# Altium schematic symbol library MCU_Texas_MSP430.SchLib: 361 symbols (part 7 of 9)
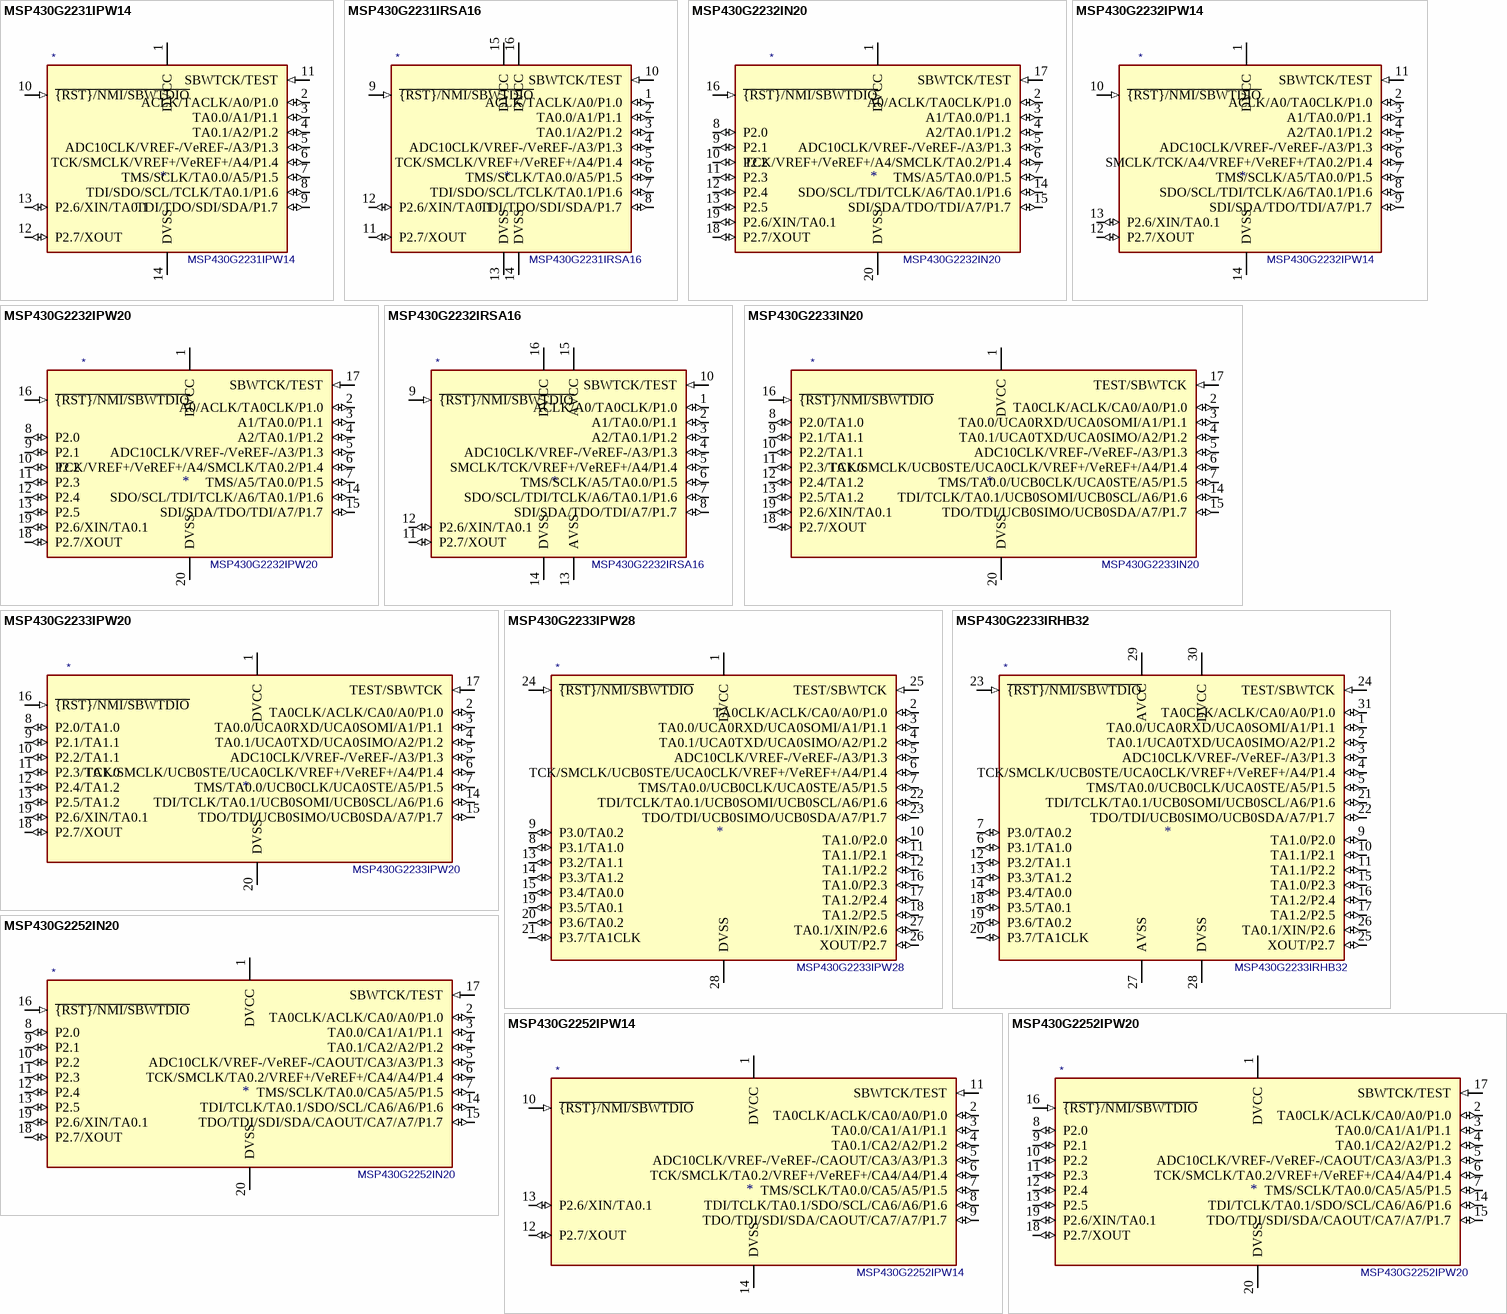
[diagram p40: symbols MSP430G2231IPW14 to MSP430G2252IPW20]

## MSP430G2231IPW14
designator *  value MSP430G2231IPW14
ki_keywords: TI MSP430 16-bit mixed signal microcontroller; ki_description: 2kB Flash, 128B RAM, TSSOP-14; ki_fp_filters: TSSOP*4.4x5mm*P0.65mm*; Footprint: Package_SO:TSSOP-14_4.4x5mm_P0.65mm; Supplier: http://www.ti.com/lit/ds/symlink/msp430g2231.pdf
footprint TSSOP-14_4.4x5mm_P0.65mm
pins: 1 DVCC (power), 2 ACLK/TACLK/A0/P1.0 (io), 3 TA0.0/A1/P1.1 (io), 4 TA0.1/A2/P1.2 (io), 5 ADC10CLK/VREF-/VeREF-/A3/P1.3 (io), 6 TCK/SMCLK/VREF+/VeREF+/A4/P1.4 (io), 7 TMS/SCLK/TA0.0/A5/P1.5 (io), 8 TDI/SDO/SCL/TCLK/TA0.1/P1.6 (io), 9 TDI/TDO/SDI/SDA/P1.7 (io), 10 ~{{RST}/NMI/SBWTDIO} (in), 11 SBWTCK/TEST (in), 12 P2.7/XOUT (io), 13 P2.6/XIN/TA0.1 (io), 14 DVSS (power)

## MSP430G2231IRSA16
designator *  value MSP430G2231IRSA16
ki_keywords: TI MSP430 16-bit mixed signal microcontroller; ki_description: 2kB Flash, 128B RAM, QFN-16; ki_fp_filters: Texas*S?PVQFN*; Footprint: Package_DFN_QFN:Texas_S-PVQFN-N16_EP2.7x2.7mm; Supplier: http://www.ti.com/lit/ds/symlink/msp430g2231.pdf
footprint Texas_S-PVQFN-N16_EP2.7x2.7mm
pins: 1 ACLK/TACLK/A0/P1.0 (io), 2 TA0.0/A1/P1.1 (io), 3 TA0.1/A2/P1.2 (io), 4 ADC10CLK/VREF-/VeREF-/A3/P1.3 (io), 5 TCK/SMCLK/VREF+/VeREF+/A4/P1.4 (io), 6 TMS/SCLK/TA0.0/A5/P1.5 (io), 7 TDI/SDO/SCL/TCLK/TA0.1/P1.6 (io), 8 TDI/TDO/SDI/SDA/P1.7 (io), 9 ~{{RST}/NMI/SBWTDIO} (in), 10 SBWTCK/TEST (in), 11 P2.7/XOUT (io), 12 P2.6/XIN/TA0.1 (io), 13 DVSS (power), 14 DVSS (power), 15 DVCC (power), 16 DVCC (power)

## MSP430G2232IN20
designator *  value MSP430G2232IN20
ki_keywords: TI MSP430 16-bit mixed signal microcontroller; ki_description: 2kB Flash, 256B RAM, DIP-20; ki_fp_filters: DIP*W7.62mm*; Footprint: Package_DIP:DIP-20_W7.62mm; Supplier: http://www.ti.com/lit/ds/symlink/msp430g2232.pdf
footprint DIP-20_W7.62mm
pins: 1 DVCC (power), 2 A0/ACLK/TA0CLK/P1.0 (io), 3 A1/TA0.0/P1.1 (io), 4 A2/TA0.1/P1.2 (io), 5 ADC10CLK/VREF-/VeREF-/A3/P1.3 (io), 6 TCK/VREF+/VeREF+/A4/SMCLK/TA0.2/P1.4 (io), 7 TMS/A5/TA0.0/P1.5 (io), 8 P2.0 (io), 9 P2.1 (io), 10 P2.2 (io), 11 P2.3 (io), 12 P2.4 (io), 13 P2.5 (io), 14 SDO/SCL/TDI/TCLK/A6/TA0.1/P1.6 (io), 15 SDI/SDA/TDO/TDI/A7/P1.7 (io), 16 ~{{RST}/NMI/SBWTDIO} (in), 17 SBWTCK/TEST (in), 18 P2.7/XOUT (io), 19 P2.6/XIN/TA0.1 (io), 20 DVSS (power)

## MSP430G2232IPW14
designator *  value MSP430G2232IPW14
ki_keywords: TI MSP430 16-bit mixed signal microcontroller; ki_description: 2kB Flash, 256B RAM, TSSOP-14; ki_fp_filters: TSSOP*4.4x5mm*P0.65mm*; Footprint: Package_SO:TSSOP-14_4.4x5mm_P0.65mm; Supplier: http://www.ti.com/lit/ds/symlink/msp430g2232.pdf
footprint TSSOP-14_4.4x5mm_P0.65mm
pins: 1 DVCC (power), 2 ACLK/A0/TA0CLK/P1.0 (io), 3 A1/TA0.0/P1.1 (io), 4 A2/TA0.1/P1.2 (io), 5 ADC10CLK/VREF-/VeREF-/A3/P1.3 (io), 6 SMCLK/TCK/A4/VREF+/VeREF+/TA0.2/P1.4 (io), 7 TMS/SCLK/A5/TA0.0/P1.5 (io), 8 SDO/SCL/TDI/TCLK/A6/TA0.1/P1.6 (io), 9 SDI/SDA/TDO/TDI/A7/P1.7 (io), 10 ~{{RST}/NMI/SBWTDIO} (in), 11 SBWTCK/TEST (in), 12 P2.7/XOUT (io), 13 P2.6/XIN/TA0.1 (io), 14 DVSS (power)

## MSP430G2232IPW20
designator *  value MSP430G2232IPW20
ki_keywords: TI MSP430 16-bit mixed signal microcontroller; ki_description: 2kB Flash, 256B RAM, TSSOP-20; ki_fp_filters: TSSOP*4.4x6.5mm*P0.65mm*; Footprint: Package_SO:TSSOP-20_4.4x6.5mm_P0.65mm; Supplier: http://www.ti.com/lit/ds/symlink/msp430g2232.pdf
footprint TSSOP-20_4.4x6.5mm_P0.65mm
pins: 1 DVCC (power), 2 A0/ACLK/TA0CLK/P1.0 (io), 3 A1/TA0.0/P1.1 (io), 4 A2/TA0.1/P1.2 (io), 5 ADC10CLK/VREF-/VeREF-/A3/P1.3 (io), 6 TCK/VREF+/VeREF+/A4/SMCLK/TA0.2/P1.4 (io), 7 TMS/A5/TA0.0/P1.5 (io), 8 P2.0 (io), 9 P2.1 (io), 10 P2.2 (io), 11 P2.3 (io), 12 P2.4 (io), 13 P2.5 (io), 14 SDO/SCL/TDI/TCLK/A6/TA0.1/P1.6 (io), 15 SDI/SDA/TDO/TDI/A7/P1.7 (io), 16 ~{{RST}/NMI/SBWTDIO} (in), 17 SBWTCK/TEST (in), 18 P2.7/XOUT (io), 19 P2.6/XIN/TA0.1 (io), 20 DVSS (power)

## MSP430G2232IRSA16
designator *  value MSP430G2232IRSA16
ki_keywords: TI MSP430 16-bit mixed signal microcontroller; ki_description: 2kB Flash, 256B RAM, QFN-16; ki_fp_filters: Texas*S?PVQFN*; Footprint: Package_DFN_QFN:Texas_S-PVQFN-N16_EP2.7x2.7mm; Supplier: http://www.ti.com/lit/ds/symlink/msp430g2232.pdf
footprint Texas_S-PVQFN-N16_EP2.7x2.7mm
pins: 1 ACLK/A0/TA0CLK/P1.0 (io), 2 A1/TA0.0/P1.1 (io), 3 A2/TA0.1/P1.2 (io), 4 ADC10CLK/VREF-/VeREF-/A3/P1.3 (io), 5 SMCLK/TCK/VREF+/VeREF+/A4/P1.4 (io), 6 TMS/SCLK/A5/TA0.0/P1.5 (io), 7 SDO/SCL/TDI/TCLK/A6/TA0.1/P1.6 (io), 8 SDI/SDA/TDO/TDI/A7/P1.7 (io), 9 ~{{RST}/NMI/SBWTDIO} (in), 10 SBWTCK/TEST (in), 11 P2.7/XOUT (io), 12 P2.6/XIN/TA0.1 (io), 13 AVSS (power), 14 DVSS (power), 15 AVCC (power), 16 DVCC (power)

## MSP430G2233IN20
designator *  value MSP430G2233IN20
ki_keywords: TI MSP430 16-bit mixed signal microcontroller; ki_description: 2kB Flash, 256B RAM, DIP-20; ki_fp_filters: DIP*W7.62mm*; Footprint: Package_DIP:DIP-20_W7.62mm; Supplier: http://www.ti.com/lit/ds/symlink/msp430g2233.pdf
footprint DIP-20_W7.62mm
pins: 1 DVCC (power), 2 TA0CLK/ACLK/CA0/A0/P1.0 (io), 3 TA0.0/UCA0RXD/UCA0SOMI/A1/P1.1 (io), 4 TA0.1/UCA0TXD/UCA0SIMO/A2/P1.2 (io), 5 ADC10CLK/VREF-/VeREF-/A3/P1.3 (io), 6 TCK/SMCLK/UCB0STE/UCA0CLK/VREF+/VeREF+/A4/P1.4 (io), 7 TMS/TA0.0/UCB0CLK/UCA0STE/A5/P1.5 (io), 8 P2.0/TA1.0 (io), 9 P2.1/TA1.1 (io), 10 P2.2/TA1.1 (io), 11 P2.3/TA1.0 (io), 12 P2.4/TA1.2 (io), 13 P2.5/TA1.2 (io), 14 TDI/TCLK/TA0.1/UCB0SOMI/UCB0SCL/A6/P1.6 (io), 15 TDO/TDI/UCB0SIMO/UCB0SDA/A7/P1.7 (io), 16 ~{{RST}/NMI/SBWTDIO} (in), 17 TEST/SBWTCK (in), 18 P2.7/XOUT (io), 19 P2.6/XIN/TA0.1 (io), 20 DVSS (power)

## MSP430G2233IPW20
designator *  value MSP430G2233IPW20
ki_keywords: TI MSP430 16-bit mixed signal microcontroller; ki_description: 2kB Flash, 256B RAM, TSSOP-20; ki_fp_filters: TSSOP*4.4x6.5mm*P0.65mm*; Footprint: Package_SO:TSSOP-20_4.4x6.5mm_P0.65mm; Supplier: http://www.ti.com/lit/ds/symlink/msp430g2233.pdf
footprint TSSOP-20_4.4x6.5mm_P0.65mm
pins: 1 DVCC (power), 2 TA0CLK/ACLK/CA0/A0/P1.0 (io), 3 TA0.0/UCA0RXD/UCA0SOMI/A1/P1.1 (io), 4 TA0.1/UCA0TXD/UCA0SIMO/A2/P1.2 (io), 5 ADC10CLK/VREF-/VeREF-/A3/P1.3 (io), 6 TCK/SMCLK/UCB0STE/UCA0CLK/VREF+/VeREF+/A4/P1.4 (io), 7 TMS/TA0.0/UCB0CLK/UCA0STE/A5/P1.5 (io), 8 P2.0/TA1.0 (io), 9 P2.1/TA1.1 (io), 10 P2.2/TA1.1 (io), 11 P2.3/TA1.0 (io), 12 P2.4/TA1.2 (io), 13 P2.5/TA1.2 (io), 14 TDI/TCLK/TA0.1/UCB0SOMI/UCB0SCL/A6/P1.6 (io), 15 TDO/TDI/UCB0SIMO/UCB0SDA/A7/P1.7 (io), 16 ~{{RST}/NMI/SBWTDIO} (in), 17 TEST/SBWTCK (in), 18 P2.7/XOUT (io), 19 P2.6/XIN/TA0.1 (io), 20 DVSS (power)

## MSP430G2233IPW28
designator *  value MSP430G2233IPW28
ki_keywords: TI MSP430 16-bit mixed signal microcontroller; ki_description: 2kB Flash, 256B RAM, TSSOP-28; ki_fp_filters: TSSOP*4.4x9.7mm*P0.65mm*; Footprint: Package_SO:TSSOP-28_4.4x9.7mm_P0.65mm; Supplier: http://www.ti.com/lit/ds/symlink/msp430g2233.pdf
footprint TSSOP-28_4.4x9.7mm_P0.65mm
pins: 1 DVCC (power), 2 TA0CLK/ACLK/CA0/A0/P1.0 (io), 3 TA0.0/UCA0RXD/UCA0SOMI/A1/P1.1 (io), 4 TA0.1/UCA0TXD/UCA0SIMO/A2/P1.2 (io), 5 ADC10CLK/VREF-/VeREF-/A3/P1.3 (io), 6 TCK/SMCLK/UCB0STE/UCA0CLK/VREF+/VeREF+/A4/P1.4 (io), 7 TMS/TA0.0/UCB0CLK/UCA0STE/A5/P1.5 (io), 8 P3.1/TA1.0 (io), 9 P3.0/TA0.2 (io), 10 TA1.0/P2.0 (io), 11 TA1.1/P2.1 (io), 12 TA1.1/P2.2 (io), 13 P3.2/TA1.1 (io), 14 P3.3/TA1.2 (io), 15 P3.4/TA0.0 (io), 16 TA1.0/P2.3 (io), 17 TA1.2/P2.4 (io), 18 TA1.2/P2.5 (io), 19 P3.5/TA0.1 (io), 20 P3.6/TA0.2 (io), 21 P3.7/TA1CLK (io), 22 TDI/TCLK/TA0.1/UCB0SOMI/UCB0SCL/A6/P1.6 (io), 23 TDO/TDI/UCB0SIMO/UCB0SDA/A7/P1.7 (io), 24 ~{{RST}/NMI/SBWTDIO} (in), 25 TEST/SBWTCK (in), 26 XOUT/P2.7 (io), 27 TA0.1/XIN/P2.6 (io), 28 DVSS (power)

## MSP430G2233IRHB32
designator *  value MSP430G2233IRHB32
ki_keywords: TI MSP430 16-bit mixed signal microcontroller; ki_description: 2kB Flash, 256B RAM, QFN-32; ki_fp_filters: Texas*S?PVQFN*; Footprint: Package_DFN_QFN:Texas_S-PVQFN-N32_EP3.45x3.45mm; Supplier: http://www.ti.com/lit/ds/symlink/msp430g2233.pdf
footprint Texas_S-PVQFN-N32_EP3.45x3.45mm
pins: 1 TA0.0/UCA0RXD/UCA0SOMI/A1/P1.1 (io), 2 TA0.1/UCA0TXD/UCA0SIMO/A2/P1.2 (io), 3 ADC10CLK/VREF-/VeREF-/A3/P1.3 (io), 4 TCK/SMCLK/UCB0STE/UCA0CLK/VREF+/VeREF+/A4/P1.4 (io), 5 TMS/TA0.0/UCB0CLK/UCA0STE/A5/P1.5 (io), 6 P3.1/TA1.0 (io), 7 P3.0/TA0.2 (io), 9 TA1.0/P2.0 (io), 10 TA1.1/P2.1 (io), 11 TA1.1/P2.2 (io), 12 P3.2/TA1.1 (io), 13 P3.3/TA1.2 (io), 14 P3.4/TA0.0 (io), 15 TA1.0/P2.3 (io), 16 TA1.2/P2.4 (io), 17 TA1.2/P2.5 (io), 18 P3.5/TA0.1 (io), 19 P3.6/TA0.2 (io), 20 P3.7/TA1CLK (io), 21 TDI/TCLK/TA0.1/UCB0SOMI/UCB0SCL/A6/P1.6 (io), 22 TDO/TDI/UCB0SIMO/UCB0SDA/A7/P1.7 (io), 23 ~{{RST}/NMI/SBWTDIO} (in), 24 TEST/SBWTCK (in), 25 XOUT/P2.7 (io), 26 TA0.1/XIN/P2.6 (io), 27 AVSS (power), 28 DVSS (power), 29 AVCC (power), 30 DVCC (power), 31 TA0CLK/ACLK/CA0/A0/P1.0 (io)

## MSP430G2252IN20
designator *  value MSP430G2252IN20
ki_keywords: TI MSP430 16-bit mixed signal microcontroller; ki_description: 2kB Flash, 256B RAM, DIP-20; ki_fp_filters: DIP*W7.62mm*; Footprint: Package_DIP:DIP-20_W7.62mm; Supplier: http://www.ti.com/lit/ds/symlink/msp430g2252.pdf
footprint DIP-20_W7.62mm
pins: 1 DVCC (power), 2 TA0CLK/ACLK/CA0/A0/P1.0 (io), 3 TA0.0/CA1/A1/P1.1 (io), 4 TA0.1/CA2/A2/P1.2 (io), 5 ADC10CLK/VREF-/VeREF-/CAOUT/CA3/A3/P1.3 (io), 6 TCK/SMCLK/TA0.2/VREF+/VeREF+/CA4/A4/P1.4 (io), 7 TMS/SCLK/TA0.0/CA5/A5/P1.5 (io), 8 P2.0 (io), 9 P2.1 (io), 10 P2.2 (io), 11 P2.3 (io), 12 P2.4 (io), 13 P2.5 (io), 14 TDI/TCLK/TA0.1/SDO/SCL/CA6/A6/P1.6 (io), 15 TDO/TDI/SDI/SDA/CAOUT/CA7/A7/P1.7 (io), 16 ~{{RST}/NMI/SBWTDIO} (in), 17 SBWTCK/TEST (in), 18 P2.7/XOUT (io), 19 P2.6/XIN/TA0.1 (io), 20 DVSS (power)

## MSP430G2252IPW14
designator *  value MSP430G2252IPW14
ki_keywords: TI MSP430 16-bit mixed signal microcontroller; ki_description: 2kB Flash, 256B RAM, TSSOP-14; ki_fp_filters: TSSOP*4.4x5mm*P0.65mm*; Footprint: Package_SO:TSSOP-14_4.4x5mm_P0.65mm; Supplier: http://www.ti.com/lit/ds/symlink/msp430g2252.pdf
footprint TSSOP-14_4.4x5mm_P0.65mm
pins: 1 DVCC (power), 2 TA0CLK/ACLK/CA0/A0/P1.0 (io), 3 TA0.0/CA1/A1/P1.1 (io), 4 TA0.1/CA2/A2/P1.2 (io), 5 ADC10CLK/VREF-/VeREF-/CAOUT/CA3/A3/P1.3 (io), 6 TCK/SMCLK/TA0.2/VREF+/VeREF+/CA4/A4/P1.4 (io), 7 TMS/SCLK/TA0.0/CA5/A5/P1.5 (io), 8 TDI/TCLK/TA0.1/SDO/SCL/CA6/A6/P1.6 (io), 9 TDO/TDI/SDI/SDA/CAOUT/CA7/A7/P1.7 (io), 10 ~{{RST}/NMI/SBWTDIO} (in), 11 SBWTCK/TEST (in), 12 P2.7/XOUT (io), 13 P2.6/XIN/TA0.1 (io), 14 DVSS (power)

## MSP430G2252IPW20
designator *  value MSP430G2252IPW20
ki_keywords: TI MSP430 16-bit mixed signal microcontroller; ki_description: 2kB Flash, 256B RAM, TSSOP-20; ki_fp_filters: TSSOP*4.4x6.5mm*P0.65mm*; Footprint: Package_SO:TSSOP-20_4.4x6.5mm_P0.65mm; Supplier: http://www.ti.com/lit/ds/symlink/msp430g2252.pdf
footprint TSSOP-20_4.4x6.5mm_P0.65mm
pins: 1 DVCC (power), 2 TA0CLK/ACLK/CA0/A0/P1.0 (io), 3 TA0.0/CA1/A1/P1.1 (io), 4 TA0.1/CA2/A2/P1.2 (io), 5 ADC10CLK/VREF-/VeREF-/CAOUT/CA3/A3/P1.3 (io), 6 TCK/SMCLK/TA0.2/VREF+/VeREF+/CA4/A4/P1.4 (io), 7 TMS/SCLK/TA0.0/CA5/A5/P1.5 (io), 8 P2.0 (io), 9 P2.1 (io), 10 P2.2 (io), 11 P2.3 (io), 12 P2.4 (io), 13 P2.5 (io), 14 TDI/TCLK/TA0.1/SDO/SCL/CA6/A6/P1.6 (io), 15 TDO/TDI/SDI/SDA/CAOUT/CA7/A7/P1.7 (io), 16 ~{{RST}/NMI/SBWTDIO} (in), 17 SBWTCK/TEST (in), 18 P2.7/XOUT (io), 19 P2.6/XIN/TA0.1 (io), 20 DVSS (power)

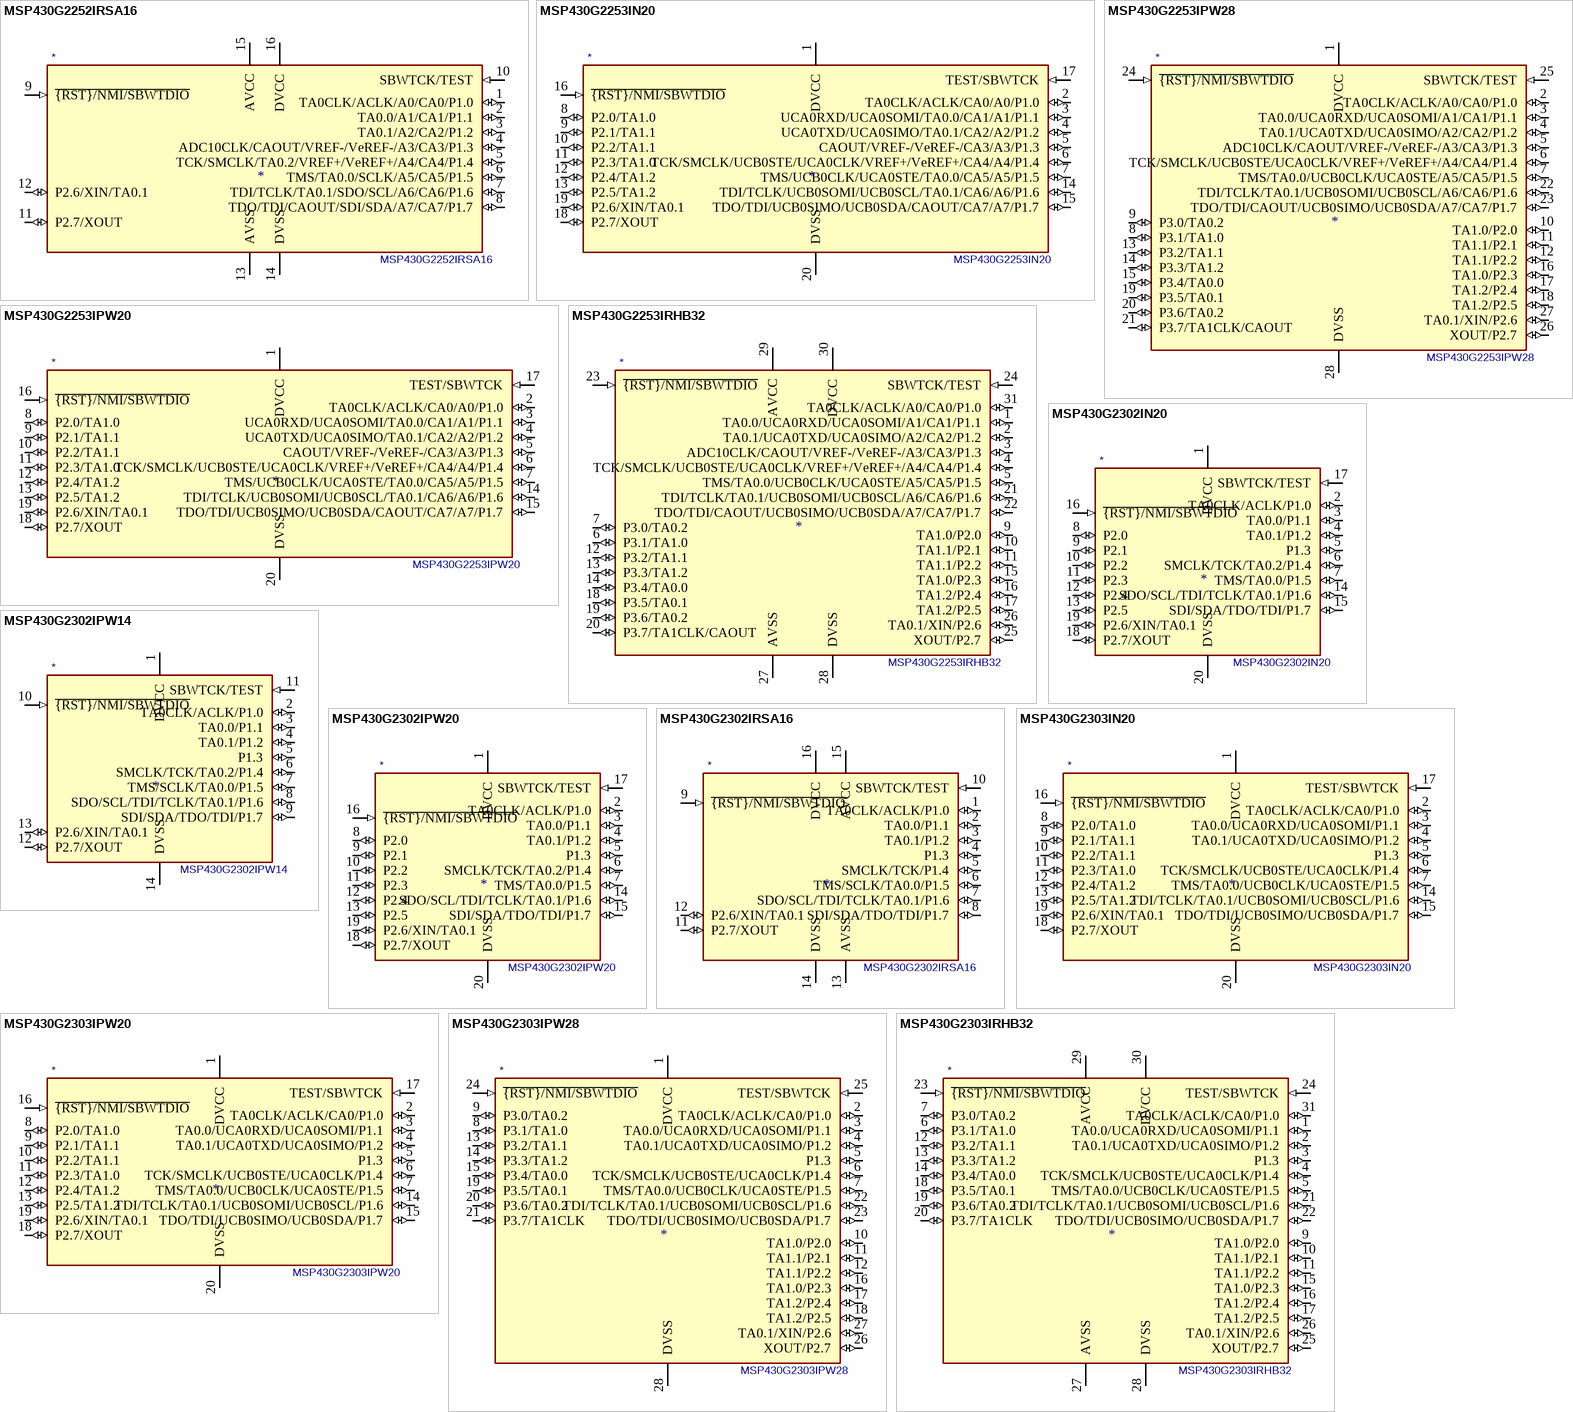
[diagram p26: symbols MSP430G2252IRSA16 to MSP430G2303IRHB32]

## MSP430G2252IRSA16
designator *  value MSP430G2252IRSA16
ki_keywords: TI MSP430 16-bit mixed signal microcontroller; ki_description: 2kB Flash, 256B RAM, QFN-16; ki_fp_filters: Texas*S?PVQFN*; Footprint: Package_DFN_QFN:Texas_S-PVQFN-N16_EP2.7x2.7mm; Supplier: http://www.ti.com/lit/ds/symlink/msp430g2252.pdf
footprint Texas_S-PVQFN-N16_EP2.7x2.7mm
pins: 1 TA0CLK/ACLK/A0/CA0/P1.0 (io), 2 TA0.0/A1/CA1/P1.1 (io), 3 TA0.1/A2/CA2/P1.2 (io), 4 ADC10CLK/CAOUT/VREF-/VeREF-/A3/CA3/P1.3 (io), 5 TCK/SMCLK/TA0.2/VREF+/VeREF+/A4/CA4/P1.4 (io), 6 TMS/TA0.0/SCLK/A5/CA5/P1.5 (io), 7 TDI/TCLK/TA0.1/SDO/SCL/A6/CA6/P1.6 (io), 8 TDO/TDI/CAOUT/SDI/SDA/A7/CA7/P1.7 (io), 9 ~{{RST}/NMI/SBWTDIO} (in), 10 SBWTCK/TEST (in), 11 P2.7/XOUT (io), 12 P2.6/XIN/TA0.1 (io), 13 AVSS (power), 14 DVSS (power), 15 AVCC (power), 16 DVCC (power)

## MSP430G2253IN20
designator *  value MSP430G2253IN20
ki_keywords: TI MSP430 16-bit mixed signal microcontroller; ki_description: 2kB Flash, 256B RAM, DIP-20; ki_fp_filters: DIP*W7.62mm*; Footprint: Package_DIP:DIP-20_W7.62mm; Supplier: http://www.ti.com/lit/ds/symlink/msp430g2253.pdf
footprint DIP-20_W7.62mm
pins: 1 DVCC (power), 2 TA0CLK/ACLK/CA0/A0/P1.0 (io), 3 UCA0RXD/UCA0SOMI/TA0.0/CA1/A1/P1.1 (io), 4 UCA0TXD/UCA0SIMO/TA0.1/CA2/A2/P1.2 (io), 5 CAOUT/VREF-/VeREF-/CA3/A3/P1.3 (io), 6 TCK/SMCLK/UCB0STE/UCA0CLK/VREF+/VeREF+/CA4/A4/P1.4 (io), 7 TMS/UCB0CLK/UCA0STE/TA0.0/CA5/A5/P1.5 (io), 8 P2.0/TA1.0 (io), 9 P2.1/TA1.1 (io), 10 P2.2/TA1.1 (io), 11 P2.3/TA1.0 (io), 12 P2.4/TA1.2 (io), 13 P2.5/TA1.2 (io), 14 TDI/TCLK/UCB0SOMI/UCB0SCL/TA0.1/CA6/A6/P1.6 (io), 15 TDO/TDI/UCB0SIMO/UCB0SDA/CAOUT/CA7/A7/P1.7 (io), 16 ~{{RST}/NMI/SBWTDIO} (in), 17 TEST/SBWTCK (in), 18 P2.7/XOUT (io), 19 P2.6/XIN/TA0.1 (io), 20 DVSS (power)

## MSP430G2253IPW20
designator *  value MSP430G2253IPW20
ki_keywords: TI MSP430 16-bit mixed signal microcontroller; ki_description: 2kB Flash, 256B RAM, TSSOP-20; ki_fp_filters: TSSOP*4.4x6.5mm*P0.65mm*; Footprint: Package_SO:TSSOP-20_4.4x6.5mm_P0.65mm; Supplier: http://www.ti.com/lit/ds/symlink/msp430g2253.pdf
footprint TSSOP-20_4.4x6.5mm_P0.65mm
pins: 1 DVCC (power), 2 TA0CLK/ACLK/CA0/A0/P1.0 (io), 3 UCA0RXD/UCA0SOMI/TA0.0/CA1/A1/P1.1 (io), 4 UCA0TXD/UCA0SIMO/TA0.1/CA2/A2/P1.2 (io), 5 CAOUT/VREF-/VeREF-/CA3/A3/P1.3 (io), 6 TCK/SMCLK/UCB0STE/UCA0CLK/VREF+/VeREF+/CA4/A4/P1.4 (io), 7 TMS/UCB0CLK/UCA0STE/TA0.0/CA5/A5/P1.5 (io), 8 P2.0/TA1.0 (io), 9 P2.1/TA1.1 (io), 10 P2.2/TA1.1 (io), 11 P2.3/TA1.0 (io), 12 P2.4/TA1.2 (io), 13 P2.5/TA1.2 (io), 14 TDI/TCLK/UCB0SOMI/UCB0SCL/TA0.1/CA6/A6/P1.6 (io), 15 TDO/TDI/UCB0SIMO/UCB0SDA/CAOUT/CA7/A7/P1.7 (io), 16 ~{{RST}/NMI/SBWTDIO} (in), 17 TEST/SBWTCK (in), 18 P2.7/XOUT (io), 19 P2.6/XIN/TA0.1 (io), 20 DVSS (power)

## MSP430G2253IPW28
designator *  value MSP430G2253IPW28
ki_keywords: TI MSP430 16-bit mixed signal microcontroller; ki_description: 2kB Flash, 256B RAM, TSSOP-28; ki_fp_filters: TSSOP*4.4x9.7mm*P0.65mm*; Footprint: Package_SO:TSSOP-28_4.4x9.7mm_P0.65mm; Supplier: http://www.ti.com/lit/ds/symlink/msp430g2253.pdf
footprint TSSOP-28_4.4x9.7mm_P0.65mm
pins: 1 DVCC (power), 2 TA0CLK/ACLK/A0/CA0/P1.0 (io), 3 TA0.0/UCA0RXD/UCA0SOMI/A1/CA1/P1.1 (io), 4 TA0.1/UCA0TXD/UCA0SIMO/A2/CA2/P1.2 (io), 5 ADC10CLK/CAOUT/VREF-/VeREF-/A3/CA3/P1.3 (io), 6 TCK/SMCLK/UCB0STE/UCA0CLK/VREF+/VeREF+/A4/CA4/P1.4 (io), 7 TMS/TA0.0/UCB0CLK/UCA0STE/A5/CA5/P1.5 (io), 8 P3.1/TA1.0 (io), 9 P3.0/TA0.2 (io), 10 TA1.0/P2.0 (io), 11 TA1.1/P2.1 (io), 12 TA1.1/P2.2 (io), 13 P3.2/TA1.1 (io), 14 P3.3/TA1.2 (io), 15 P3.4/TA0.0 (io), 16 TA1.0/P2.3 (io), 17 TA1.2/P2.4 (io), 18 TA1.2/P2.5 (io), 19 P3.5/TA0.1 (io), 20 P3.6/TA0.2 (io), 21 P3.7/TA1CLK/CAOUT (io), 22 TDI/TCLK/TA0.1/UCB0SOMI/UCB0SCL/A6/CA6/P1.6 (io), 23 TDO/TDI/CAOUT/UCB0SIMO/UCB0SDA/A7/CA7/P1.7 (io), 24 ~{{RST}/NMI/SBWTDIO} (in), 25 SBWTCK/TEST (in), 26 XOUT/P2.7 (io), 27 TA0.1/XIN/P2.6 (io), 28 DVSS (power)

## MSP430G2253IRHB32
designator *  value MSP430G2253IRHB32
ki_keywords: TI MSP430 16-bit mixed signal microcontroller; ki_description: 2kB Flash, 256B RAM, QFN-32; ki_fp_filters: Texas*S?PVQFN*; Footprint: Package_DFN_QFN:Texas_S-PVQFN-N32_EP3.45x3.45mm; Supplier: http://www.ti.com/lit/ds/symlink/msp430g2253.pdf
footprint Texas_S-PVQFN-N32_EP3.45x3.45mm
pins: 1 TA0.0/UCA0RXD/UCA0SOMI/A1/CA1/P1.1 (io), 2 TA0.1/UCA0TXD/UCA0SIMO/A2/CA2/P1.2 (io), 3 ADC10CLK/CAOUT/VREF-/VeREF-/A3/CA3/P1.3 (io), 4 TCK/SMCLK/UCB0STE/UCA0CLK/VREF+/VeREF+/A4/CA4/P1.4 (io), 5 TMS/TA0.0/UCB0CLK/UCA0STE/A5/CA5/P1.5 (io), 6 P3.1/TA1.0 (io), 7 P3.0/TA0.2 (io), 9 TA1.0/P2.0 (io), 10 TA1.1/P2.1 (io), 11 TA1.1/P2.2 (io), 12 P3.2/TA1.1 (io), 13 P3.3/TA1.2 (io), 14 P3.4/TA0.0 (io), 15 TA1.0/P2.3 (io), 16 TA1.2/P2.4 (io), 17 TA1.2/P2.5 (io), 18 P3.5/TA0.1 (io), 19 P3.6/TA0.2 (io), 20 P3.7/TA1CLK/CAOUT (io), 21 TDI/TCLK/TA0.1/UCB0SOMI/UCB0SCL/A6/CA6/P1.6 (io), 22 TDO/TDI/CAOUT/UCB0SIMO/UCB0SDA/A7/CA7/P1.7 (io), 23 ~{{RST}/NMI/SBWTDIO} (in), 24 SBWTCK/TEST (in), 25 XOUT/P2.7 (io), 26 TA0.1/XIN/P2.6 (io), 27 AVSS (power), 28 DVSS (power), 29 AVCC (power), 30 DVCC (power), 31 TA0CLK/ACLK/A0/CA0/P1.0 (io)

## MSP430G2302IN20
designator *  value MSP430G2302IN20
ki_keywords: TI MSP430 16-bit mixed signal microcontroller; ki_description: 4kB Flash, 256B RAM, DIP-20; ki_fp_filters: DIP*W7.62mm*; Footprint: Package_DIP:DIP-20_W7.62mm; Supplier: http://www.ti.com/lit/ds/symlink/msp430g2302.pdf
footprint DIP-20_W7.62mm
pins: 1 DVCC (power), 2 TA0CLK/ACLK/P1.0 (io), 3 TA0.0/P1.1 (io), 4 TA0.1/P1.2 (io), 5 P1.3 (io), 6 SMCLK/TCK/TA0.2/P1.4 (io), 7 TMS/TA0.0/P1.5 (io), 8 P2.0 (io), 9 P2.1 (io), 10 P2.2 (io), 11 P2.3 (io), 12 P2.4 (io), 13 P2.5 (io), 14 SDO/SCL/TDI/TCLK/TA0.1/P1.6 (io), 15 SDI/SDA/TDO/TDI/P1.7 (io), 16 ~{{RST}/NMI/SBWTDIO} (in), 17 SBWTCK/TEST (in), 18 P2.7/XOUT (io), 19 P2.6/XIN/TA0.1 (io), 20 DVSS (power)

## MSP430G2302IPW14
designator *  value MSP430G2302IPW14
ki_keywords: TI MSP430 16-bit mixed signal microcontroller; ki_description: 4kB Flash, 256B RAM, TSSOP-14; ki_fp_filters: TSSOP*4.4x5mm*P0.65mm*; Footprint: Package_SO:TSSOP-14_4.4x5mm_P0.65mm; Supplier: http://www.ti.com/lit/ds/symlink/msp430g2302.pdf
footprint TSSOP-14_4.4x5mm_P0.65mm
pins: 1 DVCC (power), 2 TA0CLK/ACLK/P1.0 (io), 3 TA0.0/P1.1 (io), 4 TA0.1/P1.2 (io), 5 P1.3 (io), 6 SMCLK/TCK/TA0.2/P1.4 (io), 7 TMS/SCLK/TA0.0/P1.5 (io), 8 SDO/SCL/TDI/TCLK/TA0.1/P1.6 (io), 9 SDI/SDA/TDO/TDI/P1.7 (io), 10 ~{{RST}/NMI/SBWTDIO} (in), 11 SBWTCK/TEST (in), 12 P2.7/XOUT (io), 13 P2.6/XIN/TA0.1 (io), 14 DVSS (power)

## MSP430G2302IPW20
designator *  value MSP430G2302IPW20
ki_keywords: TI MSP430 16-bit mixed signal microcontroller; ki_description: 4kB Flash, 256B RAM, TSSOP-20; ki_fp_filters: TSSOP*4.4x6.5mm*P0.65mm*; Footprint: Package_SO:TSSOP-20_4.4x6.5mm_P0.65mm; Supplier: http://www.ti.com/lit/ds/symlink/msp430g2302.pdf
footprint TSSOP-20_4.4x6.5mm_P0.65mm
pins: 1 DVCC (power), 2 TA0CLK/ACLK/P1.0 (io), 3 TA0.0/P1.1 (io), 4 TA0.1/P1.2 (io), 5 P1.3 (io), 6 SMCLK/TCK/TA0.2/P1.4 (io), 7 TMS/TA0.0/P1.5 (io), 8 P2.0 (io), 9 P2.1 (io), 10 P2.2 (io), 11 P2.3 (io), 12 P2.4 (io), 13 P2.5 (io), 14 SDO/SCL/TDI/TCLK/TA0.1/P1.6 (io), 15 SDI/SDA/TDO/TDI/P1.7 (io), 16 ~{{RST}/NMI/SBWTDIO} (in), 17 SBWTCK/TEST (in), 18 P2.7/XOUT (io), 19 P2.6/XIN/TA0.1 (io), 20 DVSS (power)

## MSP430G2302IRSA16
designator *  value MSP430G2302IRSA16
ki_keywords: TI MSP430 16-bit mixed signal microcontroller; ki_description: 4kB Flash, 256B RAM, QFN-16; ki_fp_filters: Texas*S?PVQFN*; Footprint: Package_DFN_QFN:Texas_S-PVQFN-N16_EP2.7x2.7mm; Supplier: http://www.ti.com/lit/ds/symlink/msp430g2302.pdf
footprint Texas_S-PVQFN-N16_EP2.7x2.7mm
pins: 1 TA0CLK/ACLK/P1.0 (io), 2 TA0.0/P1.1 (io), 3 TA0.1/P1.2 (io), 4 P1.3 (io), 5 SMCLK/TCK/P1.4 (io), 6 TMS/SCLK/TA0.0/P1.5 (io), 7 SDO/SCL/TDI/TCLK/TA0.1/P1.6 (io), 8 SDI/SDA/TDO/TDI/P1.7 (io), 9 ~{{RST}/NMI/SBWTDIO} (in), 10 SBWTCK/TEST (in), 11 P2.7/XOUT (io), 12 P2.6/XIN/TA0.1 (io), 13 AVSS (power), 14 DVSS (power), 15 AVCC (power), 16 DVCC (power)

## MSP430G2303IN20
designator *  value MSP430G2303IN20
ki_keywords: TI MSP430 16-bit mixed signal microcontroller; ki_description: 4kB Flash, 256B RAM, DIP-20; ki_fp_filters: DIP*W7.62mm*; Footprint: Package_DIP:DIP-20_W7.62mm; Supplier: http://www.ti.com/lit/ds/symlink/msp430g2303.pdf
footprint DIP-20_W7.62mm
pins: 1 DVCC (power), 2 TA0CLK/ACLK/CA0/P1.0 (io), 3 TA0.0/UCA0RXD/UCA0SOMI/P1.1 (io), 4 TA0.1/UCA0TXD/UCA0SIMO/P1.2 (io), 5 P1.3 (io), 6 TCK/SMCLK/UCB0STE/UCA0CLK/P1.4 (io), 7 TMS/TA0.0/UCB0CLK/UCA0STE/P1.5 (io), 8 P2.0/TA1.0 (io), 9 P2.1/TA1.1 (io), 10 P2.2/TA1.1 (io), 11 P2.3/TA1.0 (io), 12 P2.4/TA1.2 (io), 13 P2.5/TA1.2 (io), 14 TDI/TCLK/TA0.1/UCB0SOMI/UCB0SCL/P1.6 (io), 15 TDO/TDI/UCB0SIMO/UCB0SDA/P1.7 (io), 16 ~{{RST}/NMI/SBWTDIO} (in), 17 TEST/SBWTCK (in), 18 P2.7/XOUT (io), 19 P2.6/XIN/TA0.1 (io), 20 DVSS (power)

## MSP430G2303IPW20
designator *  value MSP430G2303IPW20
ki_keywords: TI MSP430 16-bit mixed signal microcontroller; ki_description: 4kB Flash, 256B RAM, TSSOP-20; ki_fp_filters: TSSOP*4.4x6.5mm*P0.65mm*; Footprint: Package_SO:TSSOP-20_4.4x6.5mm_P0.65mm; Supplier: http://www.ti.com/lit/ds/symlink/msp430g2303.pdf
footprint TSSOP-20_4.4x6.5mm_P0.65mm
pins: 1 DVCC (power), 2 TA0CLK/ACLK/CA0/P1.0 (io), 3 TA0.0/UCA0RXD/UCA0SOMI/P1.1 (io), 4 TA0.1/UCA0TXD/UCA0SIMO/P1.2 (io), 5 P1.3 (io), 6 TCK/SMCLK/UCB0STE/UCA0CLK/P1.4 (io), 7 TMS/TA0.0/UCB0CLK/UCA0STE/P1.5 (io), 8 P2.0/TA1.0 (io), 9 P2.1/TA1.1 (io), 10 P2.2/TA1.1 (io), 11 P2.3/TA1.0 (io), 12 P2.4/TA1.2 (io), 13 P2.5/TA1.2 (io), 14 TDI/TCLK/TA0.1/UCB0SOMI/UCB0SCL/P1.6 (io), 15 TDO/TDI/UCB0SIMO/UCB0SDA/P1.7 (io), 16 ~{{RST}/NMI/SBWTDIO} (in), 17 TEST/SBWTCK (in), 18 P2.7/XOUT (io), 19 P2.6/XIN/TA0.1 (io), 20 DVSS (power)

## MSP430G2303IPW28
designator *  value MSP430G2303IPW28
ki_keywords: TI MSP430 16-bit mixed signal microcontroller; ki_description: 4kB Flash, 256B RAM, TSSOP-28; ki_fp_filters: TSSOP*4.4x9.7mm*P0.65mm*; Footprint: Package_SO:TSSOP-28_4.4x9.7mm_P0.65mm; Supplier: http://www.ti.com/lit/ds/symlink/msp430g2303.pdf
footprint TSSOP-28_4.4x9.7mm_P0.65mm
pins: 1 DVCC (power), 2 TA0CLK/ACLK/CA0/P1.0 (io), 3 TA0.0/UCA0RXD/UCA0SOMI/P1.1 (io), 4 TA0.1/UCA0TXD/UCA0SIMO/P1.2 (io), 5 P1.3 (io), 6 TCK/SMCLK/UCB0STE/UCA0CLK/P1.4 (io), 7 TMS/TA0.0/UCB0CLK/UCA0STE/P1.5 (io), 8 P3.1/TA1.0 (io), 9 P3.0/TA0.2 (io), 10 TA1.0/P2.0 (io), 11 TA1.1/P2.1 (io), 12 TA1.1/P2.2 (io), 13 P3.2/TA1.1 (io), 14 P3.3/TA1.2 (io), 15 P3.4/TA0.0 (io), 16 TA1.0/P2.3 (io), 17 TA1.2/P2.4 (io), 18 TA1.2/P2.5 (io), 19 P3.5/TA0.1 (io), 20 P3.6/TA0.2 (io), 21 P3.7/TA1CLK (io), 22 TDI/TCLK/TA0.1/UCB0SOMI/UCB0SCL/P1.6 (io), 23 TDO/TDI/UCB0SIMO/UCB0SDA/P1.7 (io), 24 ~{{RST}/NMI/SBWTDIO} (in), 25 TEST/SBWTCK (in), 26 XOUT/P2.7 (io), 27 TA0.1/XIN/P2.6 (io), 28 DVSS (power)

## MSP430G2303IRHB32
designator *  value MSP430G2303IRHB32
ki_keywords: TI MSP430 16-bit mixed signal microcontroller; ki_description: 4kB Flash, 256B RAM, QFN-32; ki_fp_filters: Texas*S?PVQFN*; Footprint: Package_DFN_QFN:Texas_S-PVQFN-N32_EP3.45x3.45mm; Supplier: http://www.ti.com/lit/ds/symlink/msp430g2303.pdf
footprint Texas_S-PVQFN-N32_EP3.45x3.45mm
pins: 1 TA0.0/UCA0RXD/UCA0SOMI/P1.1 (io), 2 TA0.1/UCA0TXD/UCA0SIMO/P1.2 (io), 3 P1.3 (io), 4 TCK/SMCLK/UCB0STE/UCA0CLK/P1.4 (io), 5 TMS/TA0.0/UCB0CLK/UCA0STE/P1.5 (io), 6 P3.1/TA1.0 (io), 7 P3.0/TA0.2 (io), 9 TA1.0/P2.0 (io), 10 TA1.1/P2.1 (io), 11 TA1.1/P2.2 (io), 12 P3.2/TA1.1 (io), 13 P3.3/TA1.2 (io), 14 P3.4/TA0.0 (io), 15 TA1.0/P2.3 (io), 16 TA1.2/P2.4 (io), 17 TA1.2/P2.5 (io), 18 P3.5/TA0.1 (io), 19 P3.6/TA0.2 (io), 20 P3.7/TA1CLK (io), 21 TDI/TCLK/TA0.1/UCB0SOMI/UCB0SCL/P1.6 (io), 22 TDO/TDI/UCB0SIMO/UCB0SDA/P1.7 (io), 23 ~{{RST}/NMI/SBWTDIO} (in), 24 TEST/SBWTCK (in), 25 XOUT/P2.7 (io), 26 TA0.1/XIN/P2.6 (io), 27 AVSS (power), 28 DVSS (power), 29 AVCC (power), 30 DVCC (power), 31 TA0CLK/ACLK/CA0/P1.0 (io)

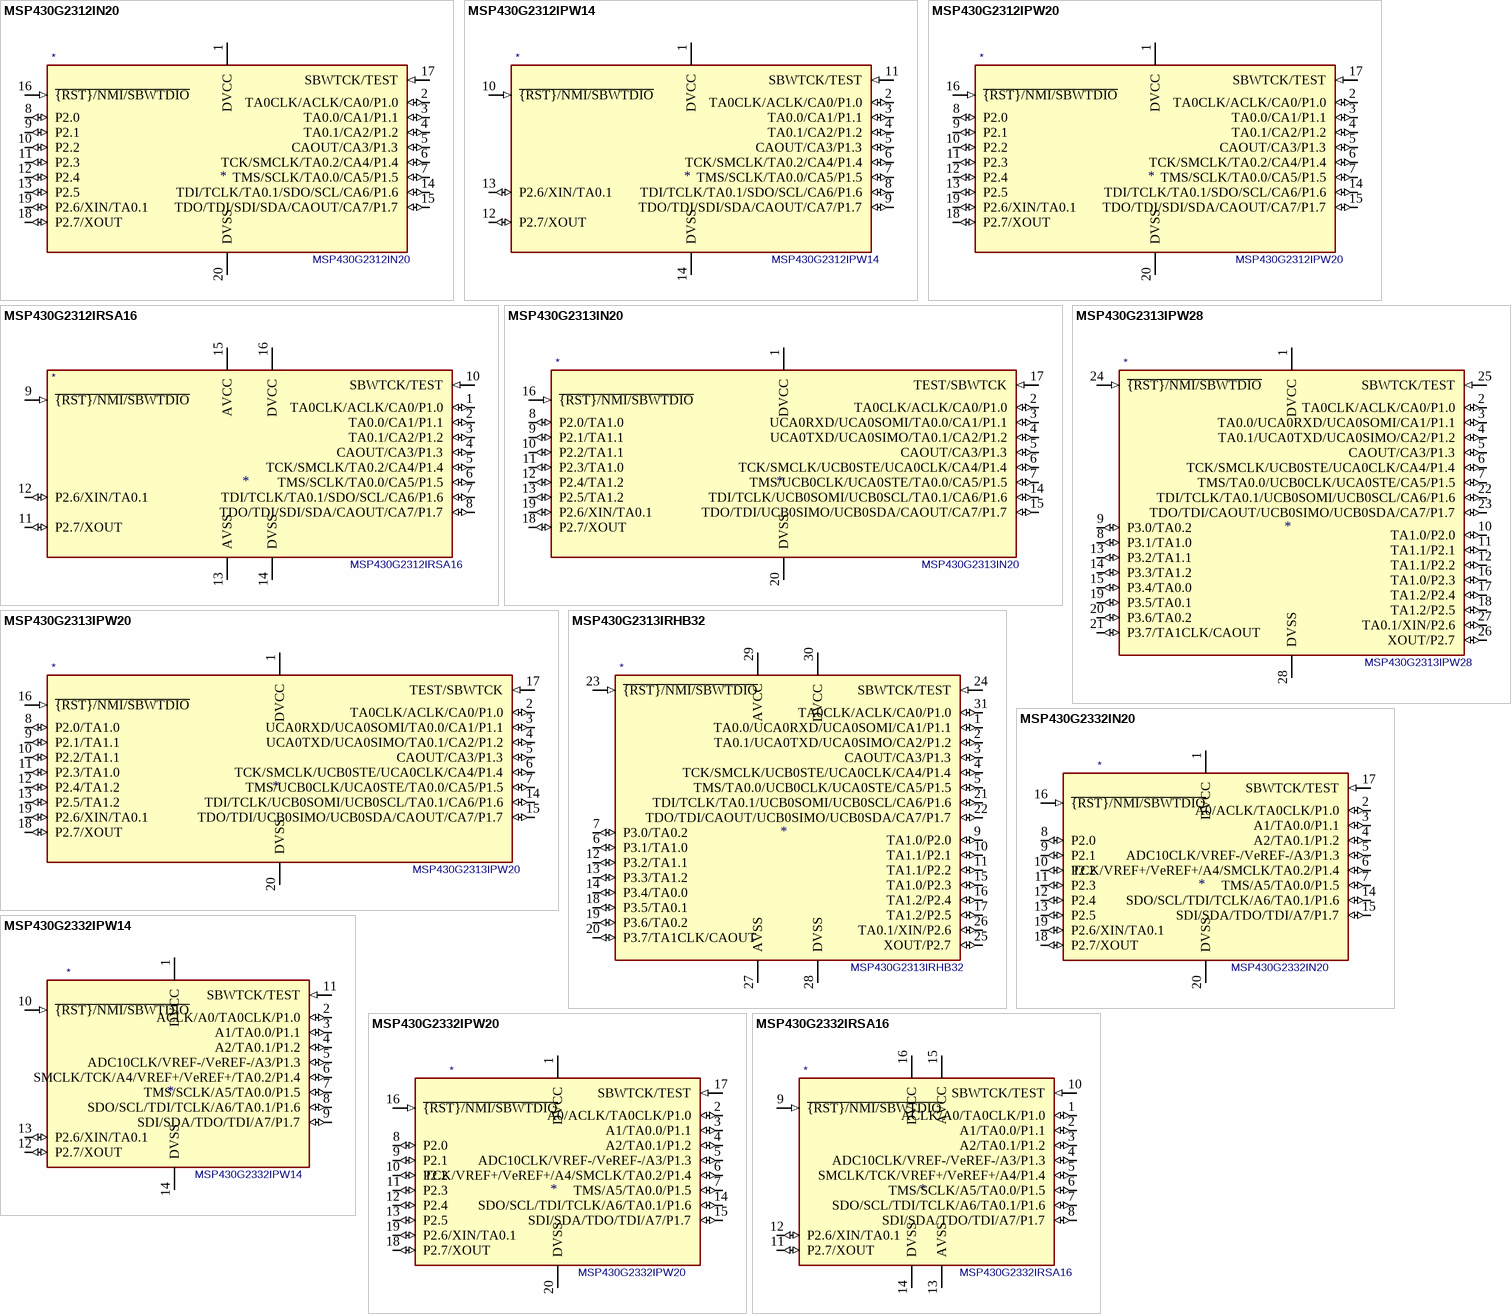
[diagram p27: symbols MSP430G2312IN20 to MSP430G2332IRSA16]

## MSP430G2312IN20
designator *  value MSP430G2312IN20
ki_keywords: TI MSP430 16-bit mixed signal microcontroller; ki_description: 4kB Flash, 256B RAM, DIP-20; ki_fp_filters: DIP*W7.62mm*; Footprint: Package_DIP:DIP-20_W7.62mm; Supplier: http://www.ti.com/lit/ds/symlink/msp430g2312.pdf
footprint DIP-20_W7.62mm
pins: 1 DVCC (power), 2 TA0CLK/ACLK/CA0/P1.0 (io), 3 TA0.0/CA1/P1.1 (io), 4 TA0.1/CA2/P1.2 (io), 5 CAOUT/CA3/P1.3 (io), 6 TCK/SMCLK/TA0.2/CA4/P1.4 (io), 7 TMS/SCLK/TA0.0/CA5/P1.5 (io), 8 P2.0 (io), 9 P2.1 (io), 10 P2.2 (io), 11 P2.3 (io), 12 P2.4 (io), 13 P2.5 (io), 14 TDI/TCLK/TA0.1/SDO/SCL/CA6/P1.6 (io), 15 TDO/TDI/SDI/SDA/CAOUT/CA7/P1.7 (io), 16 ~{{RST}/NMI/SBWTDIO} (in), 17 SBWTCK/TEST (in), 18 P2.7/XOUT (io), 19 P2.6/XIN/TA0.1 (io), 20 DVSS (power)

## MSP430G2312IPW14
designator *  value MSP430G2312IPW14
ki_keywords: TI MSP430 16-bit mixed signal microcontroller; ki_description: 4kB Flash, 256B RAM, TSSOP-14; ki_fp_filters: TSSOP*4.4x5mm*P0.65mm*; Footprint: Package_SO:TSSOP-14_4.4x5mm_P0.65mm; Supplier: http://www.ti.com/lit/ds/symlink/msp430g2312.pdf
footprint TSSOP-14_4.4x5mm_P0.65mm
pins: 1 DVCC (power), 2 TA0CLK/ACLK/CA0/P1.0 (io), 3 TA0.0/CA1/P1.1 (io), 4 TA0.1/CA2/P1.2 (io), 5 CAOUT/CA3/P1.3 (io), 6 TCK/SMCLK/TA0.2/CA4/P1.4 (io), 7 TMS/SCLK/TA0.0/CA5/P1.5 (io), 8 TDI/TCLK/TA0.1/SDO/SCL/CA6/P1.6 (io), 9 TDO/TDI/SDI/SDA/CAOUT/CA7/P1.7 (io), 10 ~{{RST}/NMI/SBWTDIO} (in), 11 SBWTCK/TEST (in), 12 P2.7/XOUT (io), 13 P2.6/XIN/TA0.1 (io), 14 DVSS (power)

## MSP430G2312IPW20
designator *  value MSP430G2312IPW20
ki_keywords: TI MSP430 16-bit mixed signal microcontroller; ki_description: 4kB Flash, 256B RAM, TSSOP-20; ki_fp_filters: TSSOP*4.4x6.5mm*P0.65mm*; Footprint: Package_SO:TSSOP-20_4.4x6.5mm_P0.65mm; Supplier: http://www.ti.com/lit/ds/symlink/msp430g2312.pdf
footprint TSSOP-20_4.4x6.5mm_P0.65mm
pins: 1 DVCC (power), 2 TA0CLK/ACLK/CA0/P1.0 (io), 3 TA0.0/CA1/P1.1 (io), 4 TA0.1/CA2/P1.2 (io), 5 CAOUT/CA3/P1.3 (io), 6 TCK/SMCLK/TA0.2/CA4/P1.4 (io), 7 TMS/SCLK/TA0.0/CA5/P1.5 (io), 8 P2.0 (io), 9 P2.1 (io), 10 P2.2 (io), 11 P2.3 (io), 12 P2.4 (io), 13 P2.5 (io), 14 TDI/TCLK/TA0.1/SDO/SCL/CA6/P1.6 (io), 15 TDO/TDI/SDI/SDA/CAOUT/CA7/P1.7 (io), 16 ~{{RST}/NMI/SBWTDIO} (in), 17 SBWTCK/TEST (in), 18 P2.7/XOUT (io), 19 P2.6/XIN/TA0.1 (io), 20 DVSS (power)

## MSP430G2312IRSA16
designator *  value MSP430G2312IRSA16
ki_keywords: TI MSP430 16-bit mixed signal microcontroller; ki_description: 4kB Flash, 256B RAM, QFN-16; ki_fp_filters: Texas*S?PVQFN*; Footprint: Package_DFN_QFN:Texas_S-PVQFN-N16_EP2.7x2.7mm; Supplier: http://www.ti.com/lit/ds/symlink/msp430g2312.pdf
footprint Texas_S-PVQFN-N16_EP2.7x2.7mm
pins: 1 TA0CLK/ACLK/CA0/P1.0 (io), 2 TA0.0/CA1/P1.1 (io), 3 TA0.1/CA2/P1.2 (io), 4 CAOUT/CA3/P1.3 (io), 5 TCK/SMCLK/TA0.2/CA4/P1.4 (io), 6 TMS/SCLK/TA0.0/CA5/P1.5 (io), 7 TDI/TCLK/TA0.1/SDO/SCL/CA6/P1.6 (io), 8 TDO/TDI/SDI/SDA/CAOUT/CA7/P1.7 (io), 9 ~{{RST}/NMI/SBWTDIO} (in), 10 SBWTCK/TEST (in), 11 P2.7/XOUT (io), 12 P2.6/XIN/TA0.1 (io), 13 AVSS (power), 14 DVSS (power), 15 AVCC (power), 16 DVCC (power)

## MSP430G2313IN20
designator *  value MSP430G2313IN20
ki_keywords: TI MSP430 16-bit mixed signal microcontroller; ki_description: 4kB Flash, 256B RAM, DIP-20; ki_fp_filters: DIP*W7.62mm*; Footprint: Package_DIP:DIP-20_W7.62mm; Supplier: http://www.ti.com/lit/ds/symlink/msp430g2313.pdf
footprint DIP-20_W7.62mm
pins: 1 DVCC (power), 2 TA0CLK/ACLK/CA0/P1.0 (io), 3 UCA0RXD/UCA0SOMI/TA0.0/CA1/P1.1 (io), 4 UCA0TXD/UCA0SIMO/TA0.1/CA2/P1.2 (io), 5 CAOUT/CA3/P1.3 (io), 6 TCK/SMCLK/UCB0STE/UCA0CLK/CA4/P1.4 (io), 7 TMS/UCB0CLK/UCA0STE/TA0.0/CA5/P1.5 (io), 8 P2.0/TA1.0 (io), 9 P2.1/TA1.1 (io), 10 P2.2/TA1.1 (io), 11 P2.3/TA1.0 (io), 12 P2.4/TA1.2 (io), 13 P2.5/TA1.2 (io), 14 TDI/TCLK/UCB0SOMI/UCB0SCL/TA0.1/CA6/P1.6 (io), 15 TDO/TDI/UCB0SIMO/UCB0SDA/CAOUT/CA7/P1.7 (io), 16 ~{{RST}/NMI/SBWTDIO} (in), 17 TEST/SBWTCK (in), 18 P2.7/XOUT (io), 19 P2.6/XIN/TA0.1 (io), 20 DVSS (power)

## MSP430G2313IPW20
designator *  value MSP430G2313IPW20
ki_keywords: TI MSP430 16-bit mixed signal microcontroller; ki_description: 4kB Flash, 256B RAM, TSSOP-20; ki_fp_filters: TSSOP*4.4x6.5mm*P0.65mm*; Footprint: Package_SO:TSSOP-20_4.4x6.5mm_P0.65mm; Supplier: http://www.ti.com/lit/ds/symlink/msp430g2313.pdf
footprint TSSOP-20_4.4x6.5mm_P0.65mm
pins: 1 DVCC (power), 2 TA0CLK/ACLK/CA0/P1.0 (io), 3 UCA0RXD/UCA0SOMI/TA0.0/CA1/P1.1 (io), 4 UCA0TXD/UCA0SIMO/TA0.1/CA2/P1.2 (io), 5 CAOUT/CA3/P1.3 (io), 6 TCK/SMCLK/UCB0STE/UCA0CLK/CA4/P1.4 (io), 7 TMS/UCB0CLK/UCA0STE/TA0.0/CA5/P1.5 (io), 8 P2.0/TA1.0 (io), 9 P2.1/TA1.1 (io), 10 P2.2/TA1.1 (io), 11 P2.3/TA1.0 (io), 12 P2.4/TA1.2 (io), 13 P2.5/TA1.2 (io), 14 TDI/TCLK/UCB0SOMI/UCB0SCL/TA0.1/CA6/P1.6 (io), 15 TDO/TDI/UCB0SIMO/UCB0SDA/CAOUT/CA7/P1.7 (io), 16 ~{{RST}/NMI/SBWTDIO} (in), 17 TEST/SBWTCK (in), 18 P2.7/XOUT (io), 19 P2.6/XIN/TA0.1 (io), 20 DVSS (power)

## MSP430G2313IPW28
designator *  value MSP430G2313IPW28
ki_keywords: TI MSP430 16-bit mixed signal microcontroller; ki_description: 4kB Flash, 256B RAM, TSSOP-28; ki_fp_filters: TSSOP*4.4x9.7mm*P0.65mm*; Footprint: Package_SO:TSSOP-28_4.4x9.7mm_P0.65mm; Supplier: http://www.ti.com/lit/ds/symlink/msp430g2313.pdf
footprint TSSOP-28_4.4x9.7mm_P0.65mm
pins: 1 DVCC (power), 2 TA0CLK/ACLK/CA0/P1.0 (io), 3 TA0.0/UCA0RXD/UCA0SOMI/CA1/P1.1 (io), 4 TA0.1/UCA0TXD/UCA0SIMO/CA2/P1.2 (io), 5 CAOUT/CA3/P1.3 (io), 6 TCK/SMCLK/UCB0STE/UCA0CLK/CA4/P1.4 (io), 7 TMS/TA0.0/UCB0CLK/UCA0STE/CA5/P1.5 (io), 8 P3.1/TA1.0 (io), 9 P3.0/TA0.2 (io), 10 TA1.0/P2.0 (io), 11 TA1.1/P2.1 (io), 12 TA1.1/P2.2 (io), 13 P3.2/TA1.1 (io), 14 P3.3/TA1.2 (io), 15 P3.4/TA0.0 (io), 16 TA1.0/P2.3 (io), 17 TA1.2/P2.4 (io), 18 TA1.2/P2.5 (io), 19 P3.5/TA0.1 (io), 20 P3.6/TA0.2 (io), 21 P3.7/TA1CLK/CAOUT (io), 22 TDI/TCLK/TA0.1/UCB0SOMI/UCB0SCL/CA6/P1.6 (io), 23 TDO/TDI/CAOUT/UCB0SIMO/UCB0SDA/CA7/P1.7 (io), 24 ~{{RST}/NMI/SBWTDIO} (in), 25 SBWTCK/TEST (in), 26 XOUT/P2.7 (io), 27 TA0.1/XIN/P2.6 (io), 28 DVSS (power)

## MSP430G2313IRHB32
designator *  value MSP430G2313IRHB32
ki_keywords: TI MSP430 16-bit mixed signal microcontroller; ki_description: 4kB Flash, 256B RAM, QFN-32; ki_fp_filters: Texas*S?PVQFN*; Footprint: Package_DFN_QFN:Texas_S-PVQFN-N32_EP3.45x3.45mm; Supplier: http://www.ti.com/lit/ds/symlink/msp430g2313.pdf
footprint Texas_S-PVQFN-N32_EP3.45x3.45mm
pins: 1 TA0.0/UCA0RXD/UCA0SOMI/CA1/P1.1 (io), 2 TA0.1/UCA0TXD/UCA0SIMO/CA2/P1.2 (io), 3 CAOUT/CA3/P1.3 (io), 4 TCK/SMCLK/UCB0STE/UCA0CLK/CA4/P1.4 (io), 5 TMS/TA0.0/UCB0CLK/UCA0STE/CA5/P1.5 (io), 6 P3.1/TA1.0 (io), 7 P3.0/TA0.2 (io), 9 TA1.0/P2.0 (io), 10 TA1.1/P2.1 (io), 11 TA1.1/P2.2 (io), 12 P3.2/TA1.1 (io), 13 P3.3/TA1.2 (io), 14 P3.4/TA0.0 (io), 15 TA1.0/P2.3 (io), 16 TA1.2/P2.4 (io), 17 TA1.2/P2.5 (io), 18 P3.5/TA0.1 (io), 19 P3.6/TA0.2 (io), 20 P3.7/TA1CLK/CAOUT (io), 21 TDI/TCLK/TA0.1/UCB0SOMI/UCB0SCL/CA6/P1.6 (io), 22 TDO/TDI/CAOUT/UCB0SIMO/UCB0SDA/CA7/P1.7 (io), 23 ~{{RST}/NMI/SBWTDIO} (in), 24 SBWTCK/TEST (in), 25 XOUT/P2.7 (io), 26 TA0.1/XIN/P2.6 (io), 27 AVSS (power), 28 DVSS (power), 29 AVCC (power), 30 DVCC (power), 31 TA0CLK/ACLK/CA0/P1.0 (io)

## MSP430G2332IN20
designator *  value MSP430G2332IN20
ki_keywords: TI MSP430 16-bit mixed signal microcontroller; ki_description: 4kB Flash, 256B RAM, DIP-20; ki_fp_filters: DIP*W7.62mm*; Footprint: Package_DIP:DIP-20_W7.62mm; Supplier: http://www.ti.com/lit/ds/symlink/msp430g2332.pdf
footprint DIP-20_W7.62mm
pins: 1 DVCC (power), 2 A0/ACLK/TA0CLK/P1.0 (io), 3 A1/TA0.0/P1.1 (io), 4 A2/TA0.1/P1.2 (io), 5 ADC10CLK/VREF-/VeREF-/A3/P1.3 (io), 6 TCK/VREF+/VeREF+/A4/SMCLK/TA0.2/P1.4 (io), 7 TMS/A5/TA0.0/P1.5 (io), 8 P2.0 (io), 9 P2.1 (io), 10 P2.2 (io), 11 P2.3 (io), 12 P2.4 (io), 13 P2.5 (io), 14 SDO/SCL/TDI/TCLK/A6/TA0.1/P1.6 (io), 15 SDI/SDA/TDO/TDI/A7/P1.7 (io), 16 ~{{RST}/NMI/SBWTDIO} (in), 17 SBWTCK/TEST (in), 18 P2.7/XOUT (io), 19 P2.6/XIN/TA0.1 (io), 20 DVSS (power)

## MSP430G2332IPW14
designator *  value MSP430G2332IPW14
ki_keywords: TI MSP430 16-bit mixed signal microcontroller; ki_description: 4kB Flash, 256B RAM, TSSOP-14; ki_fp_filters: TSSOP*4.4x5mm*P0.65mm*; Footprint: Package_SO:TSSOP-14_4.4x5mm_P0.65mm; Supplier: http://www.ti.com/lit/ds/symlink/msp430g2332.pdf
footprint TSSOP-14_4.4x5mm_P0.65mm
pins: 1 DVCC (power), 2 ACLK/A0/TA0CLK/P1.0 (io), 3 A1/TA0.0/P1.1 (io), 4 A2/TA0.1/P1.2 (io), 5 ADC10CLK/VREF-/VeREF-/A3/P1.3 (io), 6 SMCLK/TCK/A4/VREF+/VeREF+/TA0.2/P1.4 (io), 7 TMS/SCLK/A5/TA0.0/P1.5 (io), 8 SDO/SCL/TDI/TCLK/A6/TA0.1/P1.6 (io), 9 SDI/SDA/TDO/TDI/A7/P1.7 (io), 10 ~{{RST}/NMI/SBWTDIO} (in), 11 SBWTCK/TEST (in), 12 P2.7/XOUT (io), 13 P2.6/XIN/TA0.1 (io), 14 DVSS (power)

## MSP430G2332IPW20
designator *  value MSP430G2332IPW20
ki_keywords: TI MSP430 16-bit mixed signal microcontroller; ki_description: 4kB Flash, 256B RAM, TSSOP-20; ki_fp_filters: TSSOP*4.4x6.5mm*P0.65mm*; Footprint: Package_SO:TSSOP-20_4.4x6.5mm_P0.65mm; Supplier: http://www.ti.com/lit/ds/symlink/msp430g2332.pdf
footprint TSSOP-20_4.4x6.5mm_P0.65mm
pins: 1 DVCC (power), 2 A0/ACLK/TA0CLK/P1.0 (io), 3 A1/TA0.0/P1.1 (io), 4 A2/TA0.1/P1.2 (io), 5 ADC10CLK/VREF-/VeREF-/A3/P1.3 (io), 6 TCK/VREF+/VeREF+/A4/SMCLK/TA0.2/P1.4 (io), 7 TMS/A5/TA0.0/P1.5 (io), 8 P2.0 (io), 9 P2.1 (io), 10 P2.2 (io), 11 P2.3 (io), 12 P2.4 (io), 13 P2.5 (io), 14 SDO/SCL/TDI/TCLK/A6/TA0.1/P1.6 (io), 15 SDI/SDA/TDO/TDI/A7/P1.7 (io), 16 ~{{RST}/NMI/SBWTDIO} (in), 17 SBWTCK/TEST (in), 18 P2.7/XOUT (io), 19 P2.6/XIN/TA0.1 (io), 20 DVSS (power)

## MSP430G2332IRSA16
designator *  value MSP430G2332IRSA16
ki_keywords: TI MSP430 16-bit mixed signal microcontroller; ki_description: 4kB Flash, 256B RAM, QFN-16; ki_fp_filters: Texas*S?PVQFN*; Footprint: Package_DFN_QFN:Texas_S-PVQFN-N16_EP2.7x2.7mm; Supplier: http://www.ti.com/lit/ds/symlink/msp430g2332.pdf
footprint Texas_S-PVQFN-N16_EP2.7x2.7mm
pins: 1 ACLK/A0/TA0CLK/P1.0 (io), 2 A1/TA0.0/P1.1 (io), 3 A2/TA0.1/P1.2 (io), 4 ADC10CLK/VREF-/VeREF-/A3/P1.3 (io), 5 SMCLK/TCK/VREF+/VeREF+/A4/P1.4 (io), 6 TMS/SCLK/A5/TA0.0/P1.5 (io), 7 SDO/SCL/TDI/TCLK/A6/TA0.1/P1.6 (io), 8 SDI/SDA/TDO/TDI/A7/P1.7 (io), 9 ~{{RST}/NMI/SBWTDIO} (in), 10 SBWTCK/TEST (in), 11 P2.7/XOUT (io), 12 P2.6/XIN/TA0.1 (io), 13 AVSS (power), 14 DVSS (power), 15 AVCC (power), 16 DVCC (power)

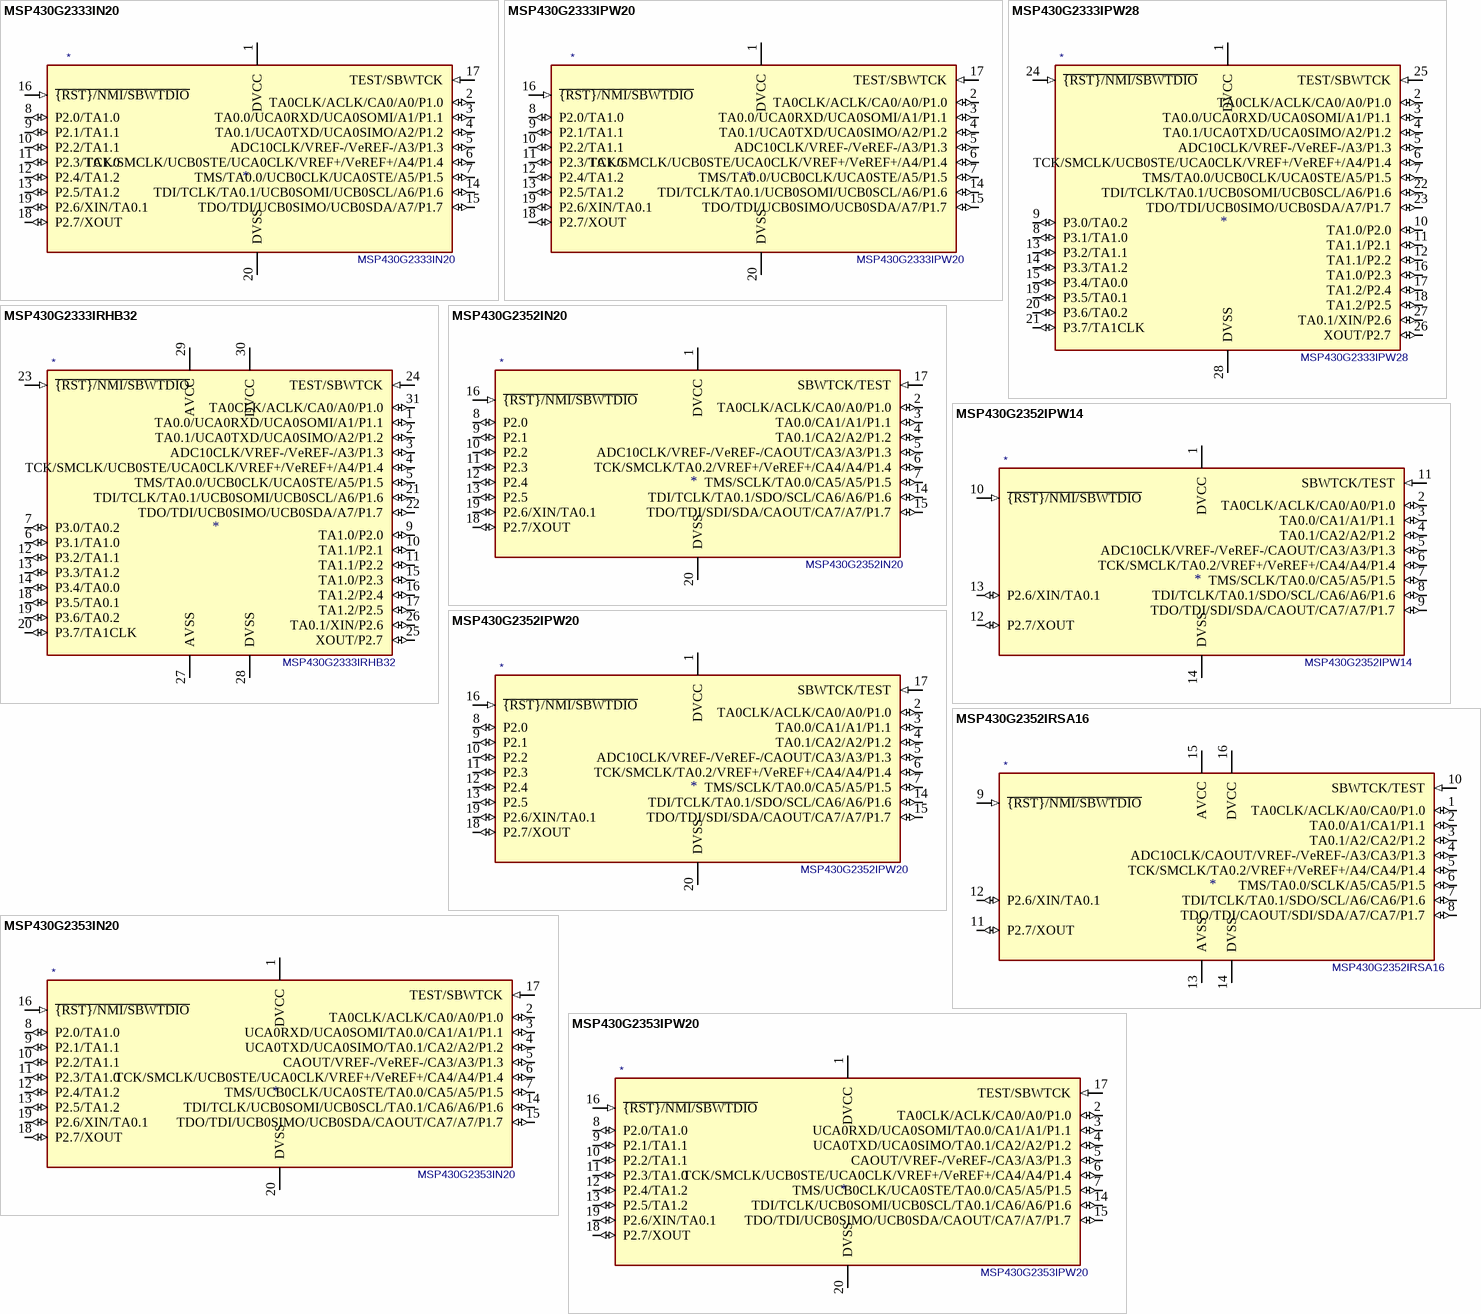
[diagram p28: symbols MSP430G2333IN20 to MSP430G2353IPW20]

## MSP430G2333IN20
designator *  value MSP430G2333IN20
ki_keywords: TI MSP430 16-bit mixed signal microcontroller; ki_description: 4kB Flash, 256B RAM, DIP-20; ki_fp_filters: DIP*W7.62mm*; Footprint: Package_DIP:DIP-20_W7.62mm; Supplier: http://www.ti.com/lit/ds/symlink/msp430g2333.pdf
footprint DIP-20_W7.62mm
pins: 1 DVCC (power), 2 TA0CLK/ACLK/CA0/A0/P1.0 (io), 3 TA0.0/UCA0RXD/UCA0SOMI/A1/P1.1 (io), 4 TA0.1/UCA0TXD/UCA0SIMO/A2/P1.2 (io), 5 ADC10CLK/VREF-/VeREF-/A3/P1.3 (io), 6 TCK/SMCLK/UCB0STE/UCA0CLK/VREF+/VeREF+/A4/P1.4 (io), 7 TMS/TA0.0/UCB0CLK/UCA0STE/A5/P1.5 (io), 8 P2.0/TA1.0 (io), 9 P2.1/TA1.1 (io), 10 P2.2/TA1.1 (io), 11 P2.3/TA1.0 (io), 12 P2.4/TA1.2 (io), 13 P2.5/TA1.2 (io), 14 TDI/TCLK/TA0.1/UCB0SOMI/UCB0SCL/A6/P1.6 (io), 15 TDO/TDI/UCB0SIMO/UCB0SDA/A7/P1.7 (io), 16 ~{{RST}/NMI/SBWTDIO} (in), 17 TEST/SBWTCK (in), 18 P2.7/XOUT (io), 19 P2.6/XIN/TA0.1 (io), 20 DVSS (power)

## MSP430G2333IPW20
designator *  value MSP430G2333IPW20
ki_keywords: TI MSP430 16-bit mixed signal microcontroller; ki_description: 4kB Flash, 256B RAM, TSSOP-20; ki_fp_filters: TSSOP*4.4x6.5mm*P0.65mm*; Footprint: Package_SO:TSSOP-20_4.4x6.5mm_P0.65mm; Supplier: http://www.ti.com/lit/ds/symlink/msp430g2333.pdf
footprint TSSOP-20_4.4x6.5mm_P0.65mm
pins: 1 DVCC (power), 2 TA0CLK/ACLK/CA0/A0/P1.0 (io), 3 TA0.0/UCA0RXD/UCA0SOMI/A1/P1.1 (io), 4 TA0.1/UCA0TXD/UCA0SIMO/A2/P1.2 (io), 5 ADC10CLK/VREF-/VeREF-/A3/P1.3 (io), 6 TCK/SMCLK/UCB0STE/UCA0CLK/VREF+/VeREF+/A4/P1.4 (io), 7 TMS/TA0.0/UCB0CLK/UCA0STE/A5/P1.5 (io), 8 P2.0/TA1.0 (io), 9 P2.1/TA1.1 (io), 10 P2.2/TA1.1 (io), 11 P2.3/TA1.0 (io), 12 P2.4/TA1.2 (io), 13 P2.5/TA1.2 (io), 14 TDI/TCLK/TA0.1/UCB0SOMI/UCB0SCL/A6/P1.6 (io), 15 TDO/TDI/UCB0SIMO/UCB0SDA/A7/P1.7 (io), 16 ~{{RST}/NMI/SBWTDIO} (in), 17 TEST/SBWTCK (in), 18 P2.7/XOUT (io), 19 P2.6/XIN/TA0.1 (io), 20 DVSS (power)

## MSP430G2333IPW28
designator *  value MSP430G2333IPW28
ki_keywords: TI MSP430 16-bit mixed signal microcontroller; ki_description: 4kB Flash, 256B RAM, TSSOP-28; ki_fp_filters: TSSOP*4.4x9.7mm*P0.65mm*; Footprint: Package_SO:TSSOP-28_4.4x9.7mm_P0.65mm; Supplier: http://www.ti.com/lit/ds/symlink/msp430g2333.pdf
footprint TSSOP-28_4.4x9.7mm_P0.65mm
pins: 1 DVCC (power), 2 TA0CLK/ACLK/CA0/A0/P1.0 (io), 3 TA0.0/UCA0RXD/UCA0SOMI/A1/P1.1 (io), 4 TA0.1/UCA0TXD/UCA0SIMO/A2/P1.2 (io), 5 ADC10CLK/VREF-/VeREF-/A3/P1.3 (io), 6 TCK/SMCLK/UCB0STE/UCA0CLK/VREF+/VeREF+/A4/P1.4 (io), 7 TMS/TA0.0/UCB0CLK/UCA0STE/A5/P1.5 (io), 8 P3.1/TA1.0 (io), 9 P3.0/TA0.2 (io), 10 TA1.0/P2.0 (io), 11 TA1.1/P2.1 (io), 12 TA1.1/P2.2 (io), 13 P3.2/TA1.1 (io), 14 P3.3/TA1.2 (io), 15 P3.4/TA0.0 (io), 16 TA1.0/P2.3 (io), 17 TA1.2/P2.4 (io), 18 TA1.2/P2.5 (io), 19 P3.5/TA0.1 (io), 20 P3.6/TA0.2 (io), 21 P3.7/TA1CLK (io), 22 TDI/TCLK/TA0.1/UCB0SOMI/UCB0SCL/A6/P1.6 (io), 23 TDO/TDI/UCB0SIMO/UCB0SDA/A7/P1.7 (io), 24 ~{{RST}/NMI/SBWTDIO} (in), 25 TEST/SBWTCK (in), 26 XOUT/P2.7 (io), 27 TA0.1/XIN/P2.6 (io), 28 DVSS (power)

## MSP430G2333IRHB32
designator *  value MSP430G2333IRHB32
ki_keywords: TI MSP430 16-bit mixed signal microcontroller; ki_description: 4kB Flash, 256B RAM, QFN-32; ki_fp_filters: Texas*S?PVQFN*; Footprint: Package_DFN_QFN:Texas_S-PVQFN-N32_EP3.45x3.45mm; Supplier: http://www.ti.com/lit/ds/symlink/msp430g2333.pdf
footprint Texas_S-PVQFN-N32_EP3.45x3.45mm
pins: 1 TA0.0/UCA0RXD/UCA0SOMI/A1/P1.1 (io), 2 TA0.1/UCA0TXD/UCA0SIMO/A2/P1.2 (io), 3 ADC10CLK/VREF-/VeREF-/A3/P1.3 (io), 4 TCK/SMCLK/UCB0STE/UCA0CLK/VREF+/VeREF+/A4/P1.4 (io), 5 TMS/TA0.0/UCB0CLK/UCA0STE/A5/P1.5 (io), 6 P3.1/TA1.0 (io), 7 P3.0/TA0.2 (io), 9 TA1.0/P2.0 (io), 10 TA1.1/P2.1 (io), 11 TA1.1/P2.2 (io), 12 P3.2/TA1.1 (io), 13 P3.3/TA1.2 (io), 14 P3.4/TA0.0 (io), 15 TA1.0/P2.3 (io), 16 TA1.2/P2.4 (io), 17 TA1.2/P2.5 (io), 18 P3.5/TA0.1 (io), 19 P3.6/TA0.2 (io), 20 P3.7/TA1CLK (io), 21 TDI/TCLK/TA0.1/UCB0SOMI/UCB0SCL/A6/P1.6 (io), 22 TDO/TDI/UCB0SIMO/UCB0SDA/A7/P1.7 (io), 23 ~{{RST}/NMI/SBWTDIO} (in), 24 TEST/SBWTCK (in), 25 XOUT/P2.7 (io), 26 TA0.1/XIN/P2.6 (io), 27 AVSS (power), 28 DVSS (power), 29 AVCC (power), 30 DVCC (power), 31 TA0CLK/ACLK/CA0/A0/P1.0 (io)

## MSP430G2352IN20
designator *  value MSP430G2352IN20
ki_keywords: TI MSP430 16-bit mixed signal microcontroller; ki_description: 4kB Flash, 256B RAM, DIP-20; ki_fp_filters: DIP*W7.62mm*; Footprint: Package_DIP:DIP-20_W7.62mm; Supplier: http://www.ti.com/lit/ds/symlink/msp430g2352.pdf
footprint DIP-20_W7.62mm
pins: 1 DVCC (power), 2 TA0CLK/ACLK/CA0/A0/P1.0 (io), 3 TA0.0/CA1/A1/P1.1 (io), 4 TA0.1/CA2/A2/P1.2 (io), 5 ADC10CLK/VREF-/VeREF-/CAOUT/CA3/A3/P1.3 (io), 6 TCK/SMCLK/TA0.2/VREF+/VeREF+/CA4/A4/P1.4 (io), 7 TMS/SCLK/TA0.0/CA5/A5/P1.5 (io), 8 P2.0 (io), 9 P2.1 (io), 10 P2.2 (io), 11 P2.3 (io), 12 P2.4 (io), 13 P2.5 (io), 14 TDI/TCLK/TA0.1/SDO/SCL/CA6/A6/P1.6 (io), 15 TDO/TDI/SDI/SDA/CAOUT/CA7/A7/P1.7 (io), 16 ~{{RST}/NMI/SBWTDIO} (in), 17 SBWTCK/TEST (in), 18 P2.7/XOUT (io), 19 P2.6/XIN/TA0.1 (io), 20 DVSS (power)

## MSP430G2352IPW14
designator *  value MSP430G2352IPW14
ki_keywords: TI MSP430 16-bit mixed signal microcontroller; ki_description: 4kB Flash, 256B RAM, TSSOP-14; ki_fp_filters: TSSOP*4.4x5mm*P0.65mm*; Footprint: Package_SO:TSSOP-14_4.4x5mm_P0.65mm; Supplier: http://www.ti.com/lit/ds/symlink/msp430g2352.pdf
footprint TSSOP-14_4.4x5mm_P0.65mm
pins: 1 DVCC (power), 2 TA0CLK/ACLK/CA0/A0/P1.0 (io), 3 TA0.0/CA1/A1/P1.1 (io), 4 TA0.1/CA2/A2/P1.2 (io), 5 ADC10CLK/VREF-/VeREF-/CAOUT/CA3/A3/P1.3 (io), 6 TCK/SMCLK/TA0.2/VREF+/VeREF+/CA4/A4/P1.4 (io), 7 TMS/SCLK/TA0.0/CA5/A5/P1.5 (io), 8 TDI/TCLK/TA0.1/SDO/SCL/CA6/A6/P1.6 (io), 9 TDO/TDI/SDI/SDA/CAOUT/CA7/A7/P1.7 (io), 10 ~{{RST}/NMI/SBWTDIO} (in), 11 SBWTCK/TEST (in), 12 P2.7/XOUT (io), 13 P2.6/XIN/TA0.1 (io), 14 DVSS (power)

## MSP430G2352IPW20
designator *  value MSP430G2352IPW20
ki_keywords: TI MSP430 16-bit mixed signal microcontroller; ki_description: 4kB Flash, 256B RAM, TSSOP-20; ki_fp_filters: TSSOP*4.4x6.5mm*P0.65mm*; Footprint: Package_SO:TSSOP-20_4.4x6.5mm_P0.65mm; Supplier: http://www.ti.com/lit/ds/symlink/msp430g2352.pdf
footprint TSSOP-20_4.4x6.5mm_P0.65mm
pins: 1 DVCC (power), 2 TA0CLK/ACLK/CA0/A0/P1.0 (io), 3 TA0.0/CA1/A1/P1.1 (io), 4 TA0.1/CA2/A2/P1.2 (io), 5 ADC10CLK/VREF-/VeREF-/CAOUT/CA3/A3/P1.3 (io), 6 TCK/SMCLK/TA0.2/VREF+/VeREF+/CA4/A4/P1.4 (io), 7 TMS/SCLK/TA0.0/CA5/A5/P1.5 (io), 8 P2.0 (io), 9 P2.1 (io), 10 P2.2 (io), 11 P2.3 (io), 12 P2.4 (io), 13 P2.5 (io), 14 TDI/TCLK/TA0.1/SDO/SCL/CA6/A6/P1.6 (io), 15 TDO/TDI/SDI/SDA/CAOUT/CA7/A7/P1.7 (io), 16 ~{{RST}/NMI/SBWTDIO} (in), 17 SBWTCK/TEST (in), 18 P2.7/XOUT (io), 19 P2.6/XIN/TA0.1 (io), 20 DVSS (power)

## MSP430G2352IRSA16
designator *  value MSP430G2352IRSA16
ki_keywords: TI MSP430 16-bit mixed signal microcontroller; ki_description: 4kB Flash, 256B RAM, QFN-16; ki_fp_filters: Texas*S?PVQFN*; Footprint: Package_DFN_QFN:Texas_S-PVQFN-N16_EP2.7x2.7mm; Supplier: http://www.ti.com/lit/ds/symlink/msp430g2352.pdf
footprint Texas_S-PVQFN-N16_EP2.7x2.7mm
pins: 1 TA0CLK/ACLK/A0/CA0/P1.0 (io), 2 TA0.0/A1/CA1/P1.1 (io), 3 TA0.1/A2/CA2/P1.2 (io), 4 ADC10CLK/CAOUT/VREF-/VeREF-/A3/CA3/P1.3 (io), 5 TCK/SMCLK/TA0.2/VREF+/VeREF+/A4/CA4/P1.4 (io), 6 TMS/TA0.0/SCLK/A5/CA5/P1.5 (io), 7 TDI/TCLK/TA0.1/SDO/SCL/A6/CA6/P1.6 (io), 8 TDO/TDI/CAOUT/SDI/SDA/A7/CA7/P1.7 (io), 9 ~{{RST}/NMI/SBWTDIO} (in), 10 SBWTCK/TEST (in), 11 P2.7/XOUT (io), 12 P2.6/XIN/TA0.1 (io), 13 AVSS (power), 14 DVSS (power), 15 AVCC (power), 16 DVCC (power)

## MSP430G2353IN20
designator *  value MSP430G2353IN20
ki_keywords: TI MSP430 16-bit mixed signal microcontroller; ki_description: 4kB Flash, 256B RAM, DIP-20; ki_fp_filters: DIP*W7.62mm*; Footprint: Package_DIP:DIP-20_W7.62mm; Supplier: http://www.ti.com/lit/ds/symlink/msp430g2353.pdf
footprint DIP-20_W7.62mm
pins: 1 DVCC (power), 2 TA0CLK/ACLK/CA0/A0/P1.0 (io), 3 UCA0RXD/UCA0SOMI/TA0.0/CA1/A1/P1.1 (io), 4 UCA0TXD/UCA0SIMO/TA0.1/CA2/A2/P1.2 (io), 5 CAOUT/VREF-/VeREF-/CA3/A3/P1.3 (io), 6 TCK/SMCLK/UCB0STE/UCA0CLK/VREF+/VeREF+/CA4/A4/P1.4 (io), 7 TMS/UCB0CLK/UCA0STE/TA0.0/CA5/A5/P1.5 (io), 8 P2.0/TA1.0 (io), 9 P2.1/TA1.1 (io), 10 P2.2/TA1.1 (io), 11 P2.3/TA1.0 (io), 12 P2.4/TA1.2 (io), 13 P2.5/TA1.2 (io), 14 TDI/TCLK/UCB0SOMI/UCB0SCL/TA0.1/CA6/A6/P1.6 (io), 15 TDO/TDI/UCB0SIMO/UCB0SDA/CAOUT/CA7/A7/P1.7 (io), 16 ~{{RST}/NMI/SBWTDIO} (in), 17 TEST/SBWTCK (in), 18 P2.7/XOUT (io), 19 P2.6/XIN/TA0.1 (io), 20 DVSS (power)

## MSP430G2353IPW20
designator *  value MSP430G2353IPW20
ki_keywords: TI MSP430 16-bit mixed signal microcontroller; ki_description: 4kB Flash, 256B RAM, TSSOP-20; ki_fp_filters: TSSOP*4.4x6.5mm*P0.65mm*; Footprint: Package_SO:TSSOP-20_4.4x6.5mm_P0.65mm; Supplier: http://www.ti.com/lit/ds/symlink/msp430g2353.pdf
footprint TSSOP-20_4.4x6.5mm_P0.65mm
pins: 1 DVCC (power), 2 TA0CLK/ACLK/CA0/A0/P1.0 (io), 3 UCA0RXD/UCA0SOMI/TA0.0/CA1/A1/P1.1 (io), 4 UCA0TXD/UCA0SIMO/TA0.1/CA2/A2/P1.2 (io), 5 CAOUT/VREF-/VeREF-/CA3/A3/P1.3 (io), 6 TCK/SMCLK/UCB0STE/UCA0CLK/VREF+/VeREF+/CA4/A4/P1.4 (io), 7 TMS/UCB0CLK/UCA0STE/TA0.0/CA5/A5/P1.5 (io), 8 P2.0/TA1.0 (io), 9 P2.1/TA1.1 (io), 10 P2.2/TA1.1 (io), 11 P2.3/TA1.0 (io), 12 P2.4/TA1.2 (io), 13 P2.5/TA1.2 (io), 14 TDI/TCLK/UCB0SOMI/UCB0SCL/TA0.1/CA6/A6/P1.6 (io), 15 TDO/TDI/UCB0SIMO/UCB0SDA/CAOUT/CA7/A7/P1.7 (io), 16 ~{{RST}/NMI/SBWTDIO} (in), 17 TEST/SBWTCK (in), 18 P2.7/XOUT (io), 19 P2.6/XIN/TA0.1 (io), 20 DVSS (power)

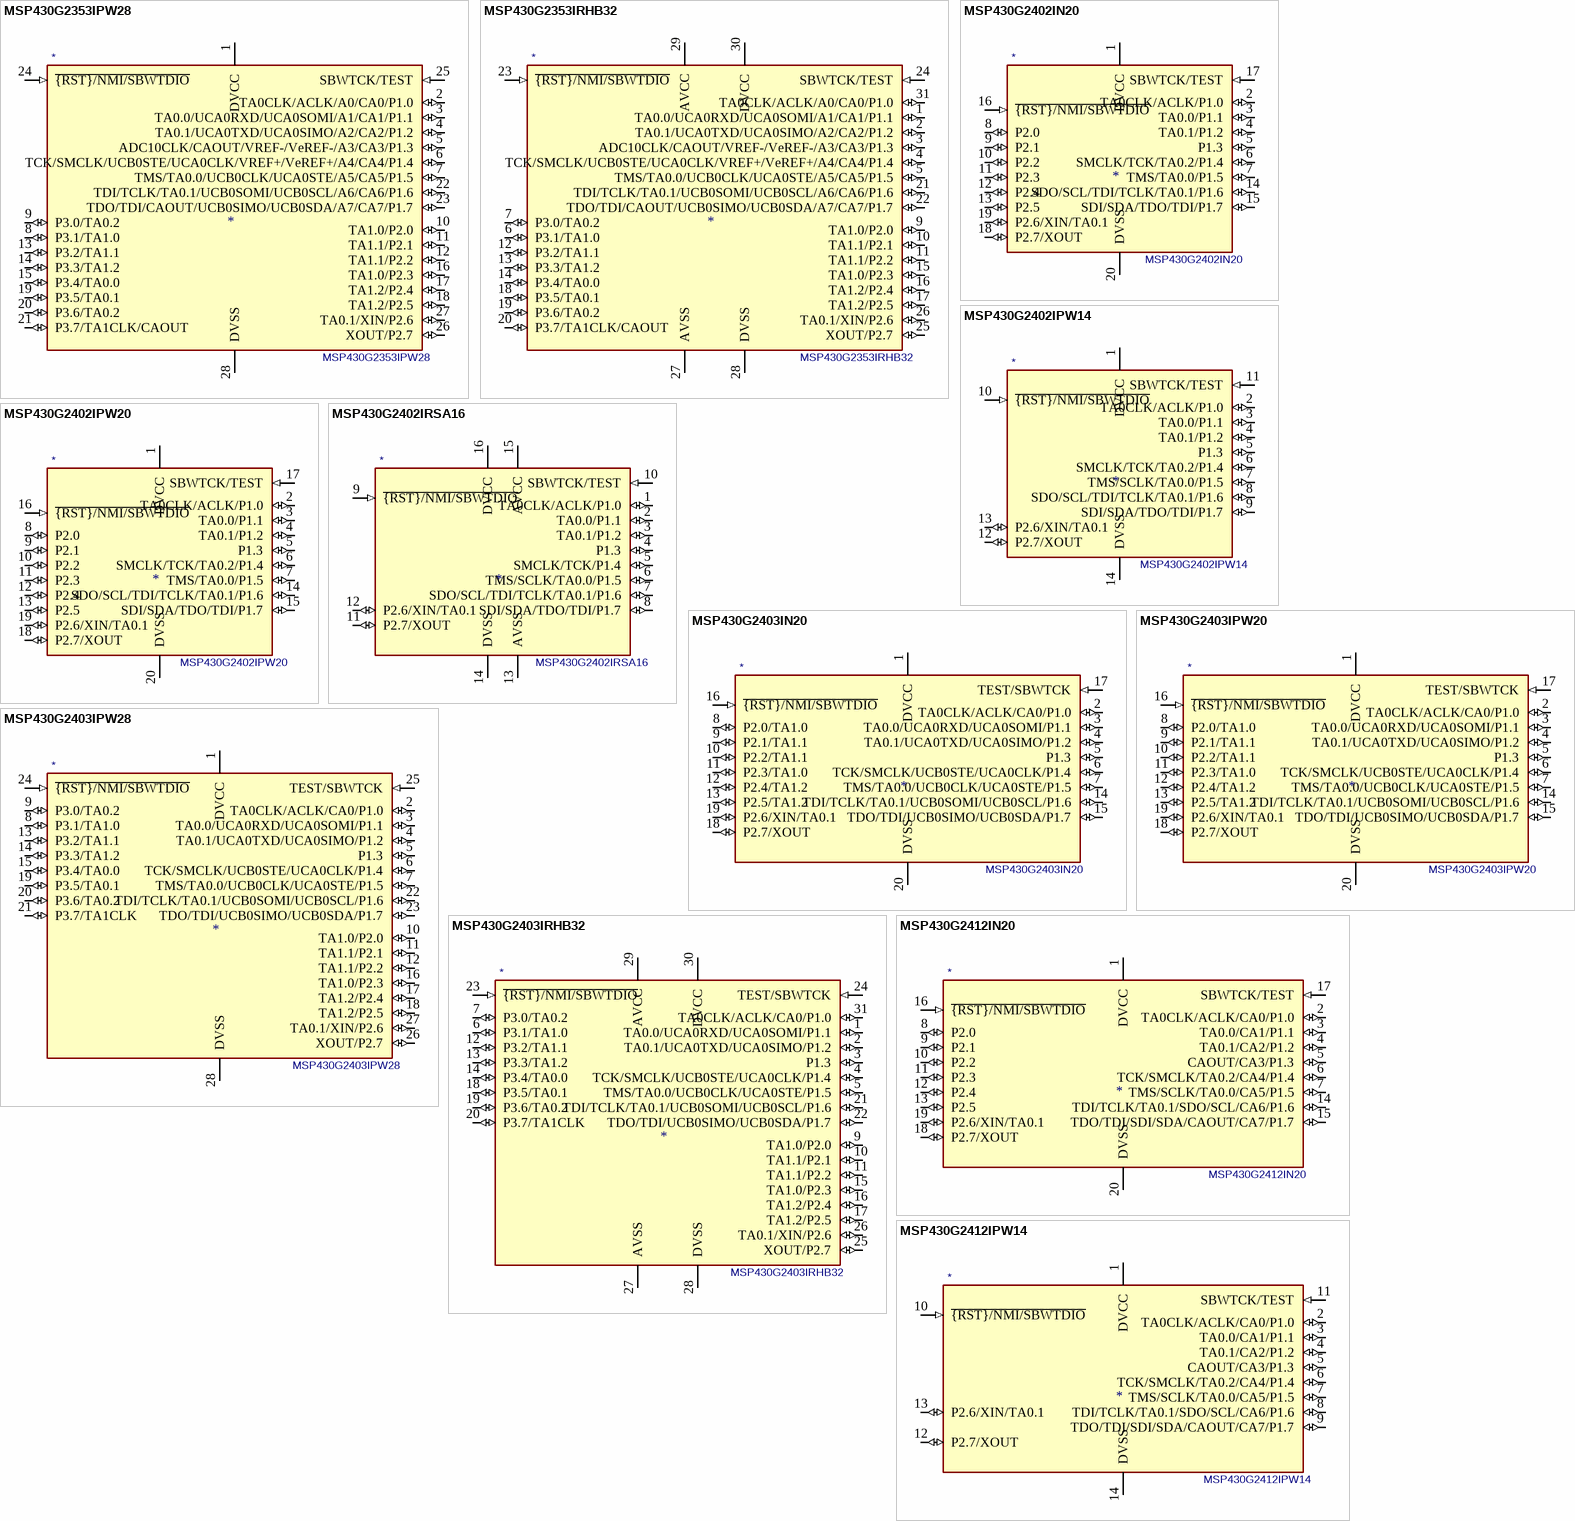
[diagram p29: symbols MSP430G2353IPW28 to MSP430G2412IPW14]

## MSP430G2353IPW28
designator *  value MSP430G2353IPW28
ki_keywords: TI MSP430 16-bit mixed signal microcontroller; ki_description: 4kB Flash, 256B RAM, TSSOP-28; ki_fp_filters: TSSOP*4.4x9.7mm*P0.65mm*; Footprint: Package_SO:TSSOP-28_4.4x9.7mm_P0.65mm; Supplier: http://www.ti.com/lit/ds/symlink/msp430g2353.pdf
footprint TSSOP-28_4.4x9.7mm_P0.65mm
pins: 1 DVCC (power), 2 TA0CLK/ACLK/A0/CA0/P1.0 (io), 3 TA0.0/UCA0RXD/UCA0SOMI/A1/CA1/P1.1 (io), 4 TA0.1/UCA0TXD/UCA0SIMO/A2/CA2/P1.2 (io), 5 ADC10CLK/CAOUT/VREF-/VeREF-/A3/CA3/P1.3 (io), 6 TCK/SMCLK/UCB0STE/UCA0CLK/VREF+/VeREF+/A4/CA4/P1.4 (io), 7 TMS/TA0.0/UCB0CLK/UCA0STE/A5/CA5/P1.5 (io), 8 P3.1/TA1.0 (io), 9 P3.0/TA0.2 (io), 10 TA1.0/P2.0 (io), 11 TA1.1/P2.1 (io), 12 TA1.1/P2.2 (io), 13 P3.2/TA1.1 (io), 14 P3.3/TA1.2 (io), 15 P3.4/TA0.0 (io), 16 TA1.0/P2.3 (io), 17 TA1.2/P2.4 (io), 18 TA1.2/P2.5 (io), 19 P3.5/TA0.1 (io), 20 P3.6/TA0.2 (io), 21 P3.7/TA1CLK/CAOUT (io), 22 TDI/TCLK/TA0.1/UCB0SOMI/UCB0SCL/A6/CA6/P1.6 (io), 23 TDO/TDI/CAOUT/UCB0SIMO/UCB0SDA/A7/CA7/P1.7 (io), 24 ~{{RST}/NMI/SBWTDIO} (in), 25 SBWTCK/TEST (in), 26 XOUT/P2.7 (io), 27 TA0.1/XIN/P2.6 (io), 28 DVSS (power)

## MSP430G2353IRHB32
designator *  value MSP430G2353IRHB32
ki_keywords: TI MSP430 16-bit mixed signal microcontroller; ki_description: 4kB Flash, 256B RAM, QFN-32; ki_fp_filters: Texas*S?PVQFN*; Footprint: Package_DFN_QFN:Texas_S-PVQFN-N32_EP3.45x3.45mm; Supplier: http://www.ti.com/lit/ds/symlink/msp430g2353.pdf
footprint Texas_S-PVQFN-N32_EP3.45x3.45mm
pins: 1 TA0.0/UCA0RXD/UCA0SOMI/A1/CA1/P1.1 (io), 2 TA0.1/UCA0TXD/UCA0SIMO/A2/CA2/P1.2 (io), 3 ADC10CLK/CAOUT/VREF-/VeREF-/A3/CA3/P1.3 (io), 4 TCK/SMCLK/UCB0STE/UCA0CLK/VREF+/VeREF+/A4/CA4/P1.4 (io), 5 TMS/TA0.0/UCB0CLK/UCA0STE/A5/CA5/P1.5 (io), 6 P3.1/TA1.0 (io), 7 P3.0/TA0.2 (io), 9 TA1.0/P2.0 (io), 10 TA1.1/P2.1 (io), 11 TA1.1/P2.2 (io), 12 P3.2/TA1.1 (io), 13 P3.3/TA1.2 (io), 14 P3.4/TA0.0 (io), 15 TA1.0/P2.3 (io), 16 TA1.2/P2.4 (io), 17 TA1.2/P2.5 (io), 18 P3.5/TA0.1 (io), 19 P3.6/TA0.2 (io), 20 P3.7/TA1CLK/CAOUT (io), 21 TDI/TCLK/TA0.1/UCB0SOMI/UCB0SCL/A6/CA6/P1.6 (io), 22 TDO/TDI/CAOUT/UCB0SIMO/UCB0SDA/A7/CA7/P1.7 (io), 23 ~{{RST}/NMI/SBWTDIO} (in), 24 SBWTCK/TEST (in), 25 XOUT/P2.7 (io), 26 TA0.1/XIN/P2.6 (io), 27 AVSS (power), 28 DVSS (power), 29 AVCC (power), 30 DVCC (power), 31 TA0CLK/ACLK/A0/CA0/P1.0 (io)

## MSP430G2402IN20
designator *  value MSP430G2402IN20
ki_keywords: TI MSP430 16-bit mixed signal microcontroller; ki_description: 8kB Flash, 256B RAM, DIP-20; ki_fp_filters: DIP*W7.62mm*; Footprint: Package_DIP:DIP-20_W7.62mm; Supplier: http://www.ti.com/lit/ds/symlink/msp430g2402.pdf
footprint DIP-20_W7.62mm
pins: 1 DVCC (power), 2 TA0CLK/ACLK/P1.0 (io), 3 TA0.0/P1.1 (io), 4 TA0.1/P1.2 (io), 5 P1.3 (io), 6 SMCLK/TCK/TA0.2/P1.4 (io), 7 TMS/TA0.0/P1.5 (io), 8 P2.0 (io), 9 P2.1 (io), 10 P2.2 (io), 11 P2.3 (io), 12 P2.4 (io), 13 P2.5 (io), 14 SDO/SCL/TDI/TCLK/TA0.1/P1.6 (io), 15 SDI/SDA/TDO/TDI/P1.7 (io), 16 ~{{RST}/NMI/SBWTDIO} (in), 17 SBWTCK/TEST (in), 18 P2.7/XOUT (io), 19 P2.6/XIN/TA0.1 (io), 20 DVSS (power)

## MSP430G2402IPW14
designator *  value MSP430G2402IPW14
ki_keywords: TI MSP430 16-bit mixed signal microcontroller; ki_description: 8kB Flash, 256B RAM, TSSOP-14; ki_fp_filters: TSSOP*4.4x5mm*P0.65mm*; Footprint: Package_SO:TSSOP-14_4.4x5mm_P0.65mm; Supplier: http://www.ti.com/lit/ds/symlink/msp430g2402.pdf
footprint TSSOP-14_4.4x5mm_P0.65mm
pins: 1 DVCC (power), 2 TA0CLK/ACLK/P1.0 (io), 3 TA0.0/P1.1 (io), 4 TA0.1/P1.2 (io), 5 P1.3 (io), 6 SMCLK/TCK/TA0.2/P1.4 (io), 7 TMS/SCLK/TA0.0/P1.5 (io), 8 SDO/SCL/TDI/TCLK/TA0.1/P1.6 (io), 9 SDI/SDA/TDO/TDI/P1.7 (io), 10 ~{{RST}/NMI/SBWTDIO} (in), 11 SBWTCK/TEST (in), 12 P2.7/XOUT (io), 13 P2.6/XIN/TA0.1 (io), 14 DVSS (power)

## MSP430G2402IPW20
designator *  value MSP430G2402IPW20
ki_keywords: TI MSP430 16-bit mixed signal microcontroller; ki_description: 8kB Flash, 256B RAM, TSSOP-20; ki_fp_filters: TSSOP*4.4x6.5mm*P0.65mm*; Footprint: Package_SO:TSSOP-20_4.4x6.5mm_P0.65mm; Supplier: http://www.ti.com/lit/ds/symlink/msp430g2402.pdf
footprint TSSOP-20_4.4x6.5mm_P0.65mm
pins: 1 DVCC (power), 2 TA0CLK/ACLK/P1.0 (io), 3 TA0.0/P1.1 (io), 4 TA0.1/P1.2 (io), 5 P1.3 (io), 6 SMCLK/TCK/TA0.2/P1.4 (io), 7 TMS/TA0.0/P1.5 (io), 8 P2.0 (io), 9 P2.1 (io), 10 P2.2 (io), 11 P2.3 (io), 12 P2.4 (io), 13 P2.5 (io), 14 SDO/SCL/TDI/TCLK/TA0.1/P1.6 (io), 15 SDI/SDA/TDO/TDI/P1.7 (io), 16 ~{{RST}/NMI/SBWTDIO} (in), 17 SBWTCK/TEST (in), 18 P2.7/XOUT (io), 19 P2.6/XIN/TA0.1 (io), 20 DVSS (power)

## MSP430G2402IRSA16
designator *  value MSP430G2402IRSA16
ki_keywords: TI MSP430 16-bit mixed signal microcontroller; ki_description: 8kB Flash, 256B RAM, QFN-16; ki_fp_filters: Texas*S?PVQFN*; Footprint: Package_DFN_QFN:Texas_S-PVQFN-N16_EP2.7x2.7mm; Supplier: http://www.ti.com/lit/ds/symlink/msp430g2402.pdf
footprint Texas_S-PVQFN-N16_EP2.7x2.7mm
pins: 1 TA0CLK/ACLK/P1.0 (io), 2 TA0.0/P1.1 (io), 3 TA0.1/P1.2 (io), 4 P1.3 (io), 5 SMCLK/TCK/P1.4 (io), 6 TMS/SCLK/TA0.0/P1.5 (io), 7 SDO/SCL/TDI/TCLK/TA0.1/P1.6 (io), 8 SDI/SDA/TDO/TDI/P1.7 (io), 9 ~{{RST}/NMI/SBWTDIO} (in), 10 SBWTCK/TEST (in), 11 P2.7/XOUT (io), 12 P2.6/XIN/TA0.1 (io), 13 AVSS (power), 14 DVSS (power), 15 AVCC (power), 16 DVCC (power)

## MSP430G2403IN20
designator *  value MSP430G2403IN20
ki_keywords: TI MSP430 16-bit mixed signal microcontroller; ki_description: 8kB Flash, 512B RAM, DIP-20; ki_fp_filters: DIP*W7.62mm*; Footprint: Package_DIP:DIP-20_W7.62mm; Supplier: http://www.ti.com/lit/ds/symlink/msp430g2403.pdf
footprint DIP-20_W7.62mm
pins: 1 DVCC (power), 2 TA0CLK/ACLK/CA0/P1.0 (io), 3 TA0.0/UCA0RXD/UCA0SOMI/P1.1 (io), 4 TA0.1/UCA0TXD/UCA0SIMO/P1.2 (io), 5 P1.3 (io), 6 TCK/SMCLK/UCB0STE/UCA0CLK/P1.4 (io), 7 TMS/TA0.0/UCB0CLK/UCA0STE/P1.5 (io), 8 P2.0/TA1.0 (io), 9 P2.1/TA1.1 (io), 10 P2.2/TA1.1 (io), 11 P2.3/TA1.0 (io), 12 P2.4/TA1.2 (io), 13 P2.5/TA1.2 (io), 14 TDI/TCLK/TA0.1/UCB0SOMI/UCB0SCL/P1.6 (io), 15 TDO/TDI/UCB0SIMO/UCB0SDA/P1.7 (io), 16 ~{{RST}/NMI/SBWTDIO} (in), 17 TEST/SBWTCK (in), 18 P2.7/XOUT (io), 19 P2.6/XIN/TA0.1 (io), 20 DVSS (power)

## MSP430G2403IPW20
designator *  value MSP430G2403IPW20
ki_keywords: TI MSP430 16-bit mixed signal microcontroller; ki_description: 8kB Flash, 512B RAM, TSSOP-20; ki_fp_filters: TSSOP*4.4x6.5mm*P0.65mm*; Footprint: Package_SO:TSSOP-20_4.4x6.5mm_P0.65mm; Supplier: http://www.ti.com/lit/ds/symlink/msp430g2403.pdf
footprint TSSOP-20_4.4x6.5mm_P0.65mm
pins: 1 DVCC (power), 2 TA0CLK/ACLK/CA0/P1.0 (io), 3 TA0.0/UCA0RXD/UCA0SOMI/P1.1 (io), 4 TA0.1/UCA0TXD/UCA0SIMO/P1.2 (io), 5 P1.3 (io), 6 TCK/SMCLK/UCB0STE/UCA0CLK/P1.4 (io), 7 TMS/TA0.0/UCB0CLK/UCA0STE/P1.5 (io), 8 P2.0/TA1.0 (io), 9 P2.1/TA1.1 (io), 10 P2.2/TA1.1 (io), 11 P2.3/TA1.0 (io), 12 P2.4/TA1.2 (io), 13 P2.5/TA1.2 (io), 14 TDI/TCLK/TA0.1/UCB0SOMI/UCB0SCL/P1.6 (io), 15 TDO/TDI/UCB0SIMO/UCB0SDA/P1.7 (io), 16 ~{{RST}/NMI/SBWTDIO} (in), 17 TEST/SBWTCK (in), 18 P2.7/XOUT (io), 19 P2.6/XIN/TA0.1 (io), 20 DVSS (power)